# Altium schematic symbol library STM32F4&F7.SchLib: 6 symbols
Pins are listed as number, name and electrical type; pins without a type are passive.

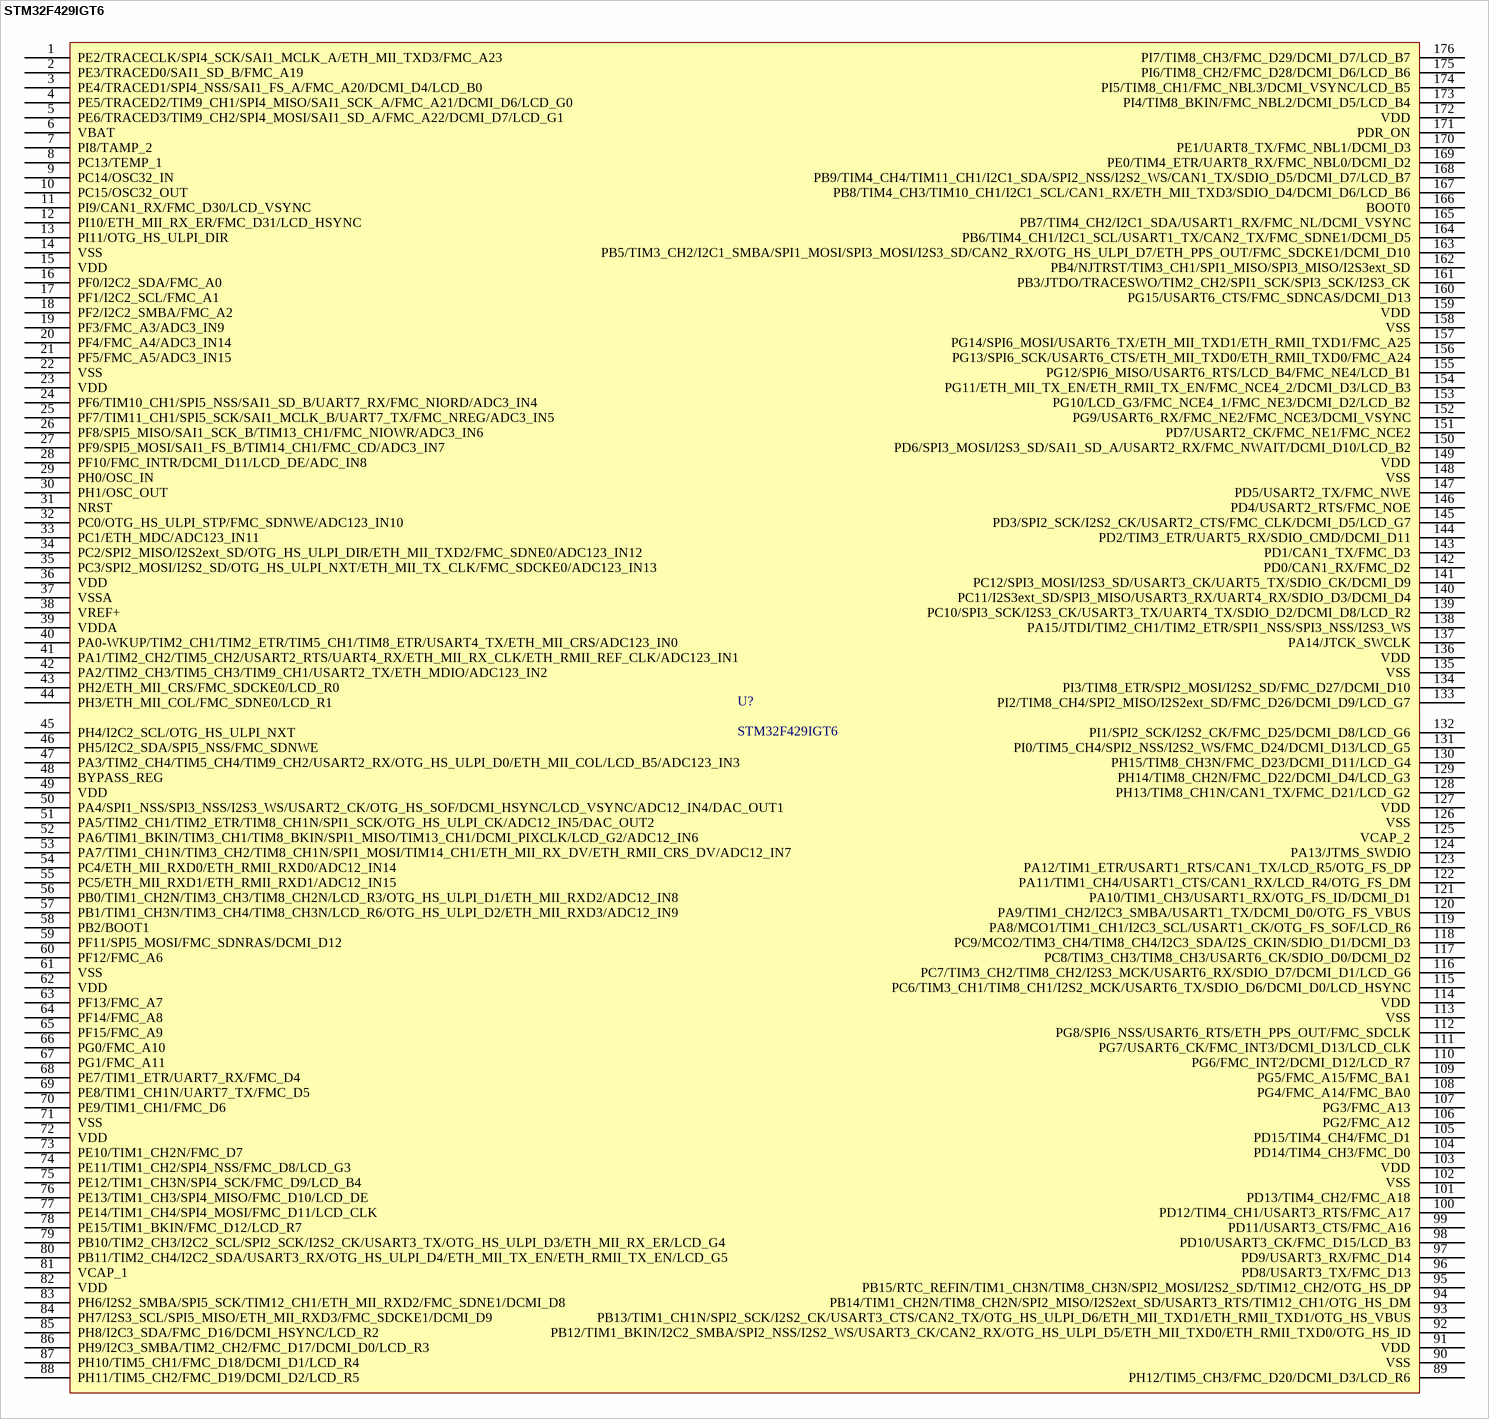
[diagram p0: symbol STM32F429IGT6]

## STM32F429IGT6
designator U?
LQFP-176
pins: 1 PE2/TRACECLK/SPI4_SCK/SAI1_MCLK_A/ETH_MII_TXD3/FMC_A23, 2 PE3/TRACED0/SAI1_SD_B/FMC_A19, 3 PE4/TRACED1/SPI4_NSS/SAI1_FS_A/FMC_A20/DCMI_D4/LCD_B0, 4 PE5/TRACED2/TIM9_CH1/SPI4_MISO/SAI1_SCK_A/FMC_A21/DCMI_D6/LCD_G0, 5 PE6/TRACED3/TIM9_CH2/SPI4_MOSI/SAI1_SD_A/FMC_A22/DCMI_D7/LCD_G1, 6 VBAT, 7 PI8/TAMP_2, 8 PC13/TEMP_1, 9 PC14/OSC32_IN, 10 PC15/OSC32_OUT, 11 PI9/CAN1_RX/FMC_D30/LCD_VSYNC, 12 PI10/ETH_MII_RX_ER/FMC_D31/LCD_HSYNC, 13 PI11/OTG_HS_ULPI_DIR, 14 VSS, 15 VDD, 16 PF0/I2C2_SDA/FMC_A0, 17 PF1/I2C2_SCL/FMC_A1, 18 PF2/I2C2_SMBA/FMC_A2, 19 PF3/FMC_A3/ADC3_IN9, 20 PF4/FMC_A4/ADC3_IN14, 21 PF5/FMC_A5/ADC3_IN15, 22 VSS, 23 VDD, 24 PF6/TIM10_CH1/SPI5_NSS/SAI1_SD_B/UART7_RX/FMC_NIORD/ADC3_IN4, 25 PF7/TIM11_CH1/SPI5_SCK/SAI1_MCLK_B/UART7_TX/FMC_NREG/ADC3_IN5, 26 PF8/SPI5_MISO/SAI1_SCK_B/TIM13_CH1/FMC_NIOWR/ADC3_IN6, 27 PF9/SPI5_MOSI/SAI1_FS_B/TIM14_CH1/FMC_CD/ADC3_IN7, 28 PF10/FMC_INTR/DCMI_D11/LCD_DE/ADC_IN8, 29 PH0/OSC_IN, 30 PH1/OSC_OUT, 31 NRST, 32 PC0/OTG_HS_ULPI_STP/FMC_SDNWE/ADC123_IN10, 33 PC1/ETH_MDC/ADC123_IN11, 34 PC2/SPI2_MISO/I2S2ext_SD/OTG_HS_ULPI_DIR/ETH_MII_TXD2/FMC_SDNE0/ADC123_IN12, 35 PC3/SPI2_MOSI/I2S2_SD/OTG_HS_ULPI_NXT/ETH_MII_TX_CLK/FMC_SDCKE0/ADC123_IN13, 36 VDD, 37 VSSA, 38 VREF+, 39 VDDA, 40 PA0-WKUP/TIM2_CH1/TIM2_ETR/TIM5_CH1/TIM8_ETR/USART4_TX/ETH_MII_CRS/ADC123_IN0, 41 PA1/TIM2_CH2/TIM5_CH2/USART2_RTS/UART4_RX/ETH_MII_RX_CLK/ETH_RMII_REF_CLK/ADC123_IN1, 42 PA2/TIM2_CH3/TIM5_CH3/TIM9_CH1/USART2_TX/ETH_MDIO/ADC123_IN2, 43 PH2/ETH_MII_CRS/FMC_SDCKE0/LCD_R0, 44 PH3/ETH_MII_COL/FMC_SDNE0/LCD_R1, 45 PH4/I2C2_SCL/OTG_HS_ULPI_NXT, 46 PH5/I2C2_SDA/SPI5_NSS/FMC_SDNWE, 47 PA3/TIM2_CH4/TIM5_CH4/TIM9_CH2/USART2_RX/OTG_HS_ULPI_D0/ETH_MII_COL/LCD_B5/ADC123_IN3, 48 BYPASS_REG, 49 VDD, 50 PA4/SPI1_NSS/SPI3_NSS/I2S3_WS/USART2_CK/OTG_HS_SOF/DCMI_HSYNC/LCD_VSYNC/ADC12_IN4/DAC_OUT1, 51 PA5/TIM2_CH1/TIM2_ETR/TIM8_CH1N/SPI1_SCK/OTG_HS_ULPI_CK/ADC12_IN5/DAC_OUT2, 52 PA6/TIM1_BKIN/TIM3_CH1/TIM8_BKIN/SPI1_MISO/TIM13_CH1/DCMI_PIXCLK/LCD_G2/ADC12_IN6, 53 PA7/TIM1_CH1N/TIM3_CH2/TIM8_CH1N/SPI1_MOSI/TIM14_CH1/ETH_MII_RX_DV/ETH_RMII_CRS_DV/ADC12_IN7, 54 PC4/ETH_MII_RXD0/ETH_RMII_RXD0/ADC12_IN14, 55 PC5/ETH_MII_RXD1/ETH_RMII_RXD1/ADC12_IN15, 56 PB0/TIM1_CH2N/TIM3_CH3/TIM8_CH2N/LCD_R3/OTG_HS_ULPI_D1/ETH_MII_RXD2/ADC12_IN8, 57 PB1/TIM1_CH3N/TIM3_CH4/TIM8_CH3N/LCD_R6/OTG_HS_ULPI_D2/ETH_MII_RXD3/ADC12_IN9, 58 PB2/BOOT1, 59 PF11/SPI5_MOSI/FMC_SDNRAS/DCMI_D12, 60 PF12/FMC_A6, 61 VSS, 62 VDD, 63 PF13/FMC_A7, 64 PF14/FMC_A8, 65 PF15/FMC_A9, 66 PG0/FMC_A10, 67 PG1/FMC_A11, 68 PE7/TIM1_ETR/UART7_RX/FMC_D4, 69 PE8/TIM1_CH1N/UART7_TX/FMC_D5, 70 PE9/TIM1_CH1/FMC_D6, 71 VSS, 72 VDD, 73 PE10/TIM1_CH2N/FMC_D7, 74 PE11/TIM1_CH2/SPI4_NSS/FMC_D8/LCD_G3, 75 PE12/TIM1_CH3N/SPI4_SCK/FMC_D9/LCD_B4, 76 PE13/TIM1_CH3/SPI4_MISO/FMC_D10/LCD_DE, 77 PE14/TIM1_CH4/SPI4_MOSI/FMC_D11/LCD_CLK, 78 PE15/TIM1_BKIN/FMC_D12/LCD_R7, 79 PB10/TIM2_CH3/I2C2_SCL/SPI2_SCK/I2S2_CK/USART3_TX/OTG_HS_ULPI_D3/ETH_MII_RX_ER/LCD_G4, 80 PB11/TIM2_CH4/I2C2_SDA/USART3_RX/OTG_HS_ULPI_D4/ETH_MII_TX_EN/ETH_RMII_TX_EN/LCD_G5, 81 VCAP_1, 82 VDD, 83 PH6/I2S2_SMBA/SPI5_SCK/TIM12_CH1/ETH_MII_RXD2/FMC_SDNE1/DCMI_D8, 84 PH7/I2S3_SCL/SPI5_MISO/ETH_MII_RXD3/FMC_SDCKE1/DCMI_D9, 85 PH8/I2C3_SDA/FMC_D16/DCMI_HSYNC/LCD_R2, 86 PH9/I2C3_SMBA/TIM2_CH2/FMC_D17/DCMI_D0/LCD_R3, 87 PH10/TIM5_CH1/FMC_D18/DCMI_D1/LCD_R4, 88 PH11/TIM5_CH2/FMC_D19/DCMI_D2/LCD_R5, 89 PH12/TIM5_CH3/FMC_D20/DCMI_D3/LCD_R6, 90 VSS, 91 VDD, 92 PB12/TIM1_BKIN/I2C2_SMBA/SPI2_NSS/I2S2_WS/USART3_CK/CAN2_RX/OTG_HS_ULPI_D5/ETH_MII_TXD0/ETH_RMII_TXD0/OTG_HS_ID, 93 PB13/TIM1_CH1N/SPI2_SCK/I2S2_CK/USART3_CTS/CAN2_TX/OTG_HS_ULPI_D6/ETH_MII_TXD1/ETH_RMII_TXD1/OTG_HS_VBUS, 94 PB14/TIM1_CH2N/TIM8_CH2N/SPI2_MISO/I2S2ext_SD/USART3_RTS/TIM12_CH1/OTG_HS_DM, 95 PB15/RTC_REFIN/TIM1_CH3N/TIM8_CH3N/SPI2_MOSI/I2S2_SD/TIM12_CH2/OTG_HS_DP, 96 PD8/USART3_TX/FMC_D13, 97 PD9/USART3_RX/FMC_D14, 98 PD10/USART3_CK/FMC_D15/LCD_B3, 99 PD11/USART3_CTS/FMC_A16, 100 PD12/TIM4_CH1/USART3_RTS/FMC_A17, 101 PD13/TIM4_CH2/FMC_A18, 102 VSS, 103 VDD, 104 PD14/TIM4_CH3/FMC_D0, 105 PD15/TIM4_CH4/FMC_D1, 106 PG2/FMC_A12, 107 PG3/FMC_A13, 108 PG4/FMC_A14/FMC_BA0, 109 PG5/FMC_A15/FMC_BA1, 110 PG6/FMC_INT2/DCMI_D12/LCD_R7, 111 PG7/USART6_CK/FMC_INT3/DCMI_D13/LCD_CLK, 112 PG8/SPI6_NSS/USART6_RTS/ETH_PPS_OUT/FMC_SDCLK, 113 VSS, 114 VDD, 115 PC6/TIM3_CH1/TIM8_CH1/I2S2_MCK/USART6_TX/SDIO_D6/DCMI_D0/LCD_HSYNC, 116 PC7/TIM3_CH2/TIM8_CH2/I2S3_MCK/USART6_RX/SDIO_D7/DCMI_D1/LCD_G6, 117 PC8/TIM3_CH3/TIM8_CH3/USART6_CK/SDIO_D0/DCMI_D2, 118 PC9/MCO2/TIM3_CH4/TIM8_CH4/I2C3_SDA/I2S_CKIN/SDIO_D1/DCMI_D3, 119 PA8/MCO1/TIM1_CH1/I2C3_SCL/USART1_CK/OTG_FS_SOF/LCD_R6, 120 PA9/TIM1_CH2/I2C3_SMBA/USART1_TX/DCMI_D0/OTG_FS_VBUS, 121 PA10/TIM1_CH3/USART1_RX/OTG_FS_ID/DCMI_D1, 122 PA11/TIM1_CH4/USART1_CTS/CAN1_RX/LCD_R4/OTG_FS_DM, 123 PA12/TIM1_ETR/USART1_RTS/CAN1_TX/LCD_R5/OTG_FS_DP, 124 PA13/JTMS_SWDIO, 125 VCAP_2, 126 VSS, 127 VDD, 128 PH13/TIM8_CH1N/CAN1_TX/FMC_D21/LCD_G2, 129 PH14/TIM8_CH2N/FMC_D22/DCMI_D4/LCD_G3, 130 PH15/TIM8_CH3N/FMC_D23/DCMI_D11/LCD_G4, 131 PI0/TIM5_CH4/SPI2_NSS/I2S2_WS/FMC_D24/DCMI_D13/LCD_G5, 132 PI1/SPI2_SCK/I2S2_CK/FMC_D25/DCMI_D8/LCD_G6, 133 PI2/TIM8_CH4/SPI2_MISO/I2S2ext_SD/FMC_D26/DCMI_D9/LCD_G7, 134 PI3/TIM8_ETR/SPI2_MOSI/I2S2_SD/FMC_D27/DCMI_D10, 135 VSS, 136 VDD, 137 PA14/JTCK_SWCLK, 138 PA15/JTDI/TIM2_CH1/TIM2_ETR/SPI1_NSS/SPI3_NSS/I2S3_WS, 139 PC10/SPI3_SCK/I2S3_CK/USART3_TX/UART4_TX/SDIO_D2/DCMI_D8/LCD_R2, 140 PC11/I2S3ext_SD/SPI3_MISO/USART3_RX/UART4_RX/SDIO_D3/DCMI_D4, 141 PC12/SPI3_MOSI/I2S3_SD/USART3_CK/UART5_TX/SDIO_CK/DCMI_D9, 142 PD0/CAN1_RX/FMC_D2, 143 PD1/CAN1_TX/FMC_D3, 144 PD2/TIM3_ETR/UART5_RX/SDIO_CMD/DCMI_D11, 145 PD3/SPI2_SCK/I2S2_CK/USART2_CTS/FMC_CLK/DCMI_D5/LCD_G7, 146 PD4/USART2_RTS/FMC_NOE, 147 PD5/USART2_TX/FMC_NWE, 148 VSS, 149 VDD, 150 PD6/SPI3_MOSI/I2S3_SD/SAI1_SD_A/USART2_RX/FMC_NWAIT/DCMI_D10/LCD_B2, 151 PD7/USART2_CK/FMC_NE1/FMC_NCE2, 152 PG9/USART6_RX/FMC_NE2/FMC_NCE3/DCMI_VSYNC, 153 PG10/LCD_G3/FMC_NCE4_1/FMC_NE3/DCMI_D2/LCD_B2, 154 PG11/ETH_MII_TX_EN/ETH_RMII_TX_EN/FMC_NCE4_2/DCMI_D3/LCD_B3, 155 PG12/SPI6_MISO/USART6_RTS/LCD_B4/FMC_NE4/LCD_B1, 156 PG13/SPI6_SCK/USART6_CTS/ETH_MII_TXD0/ETH_RMII_TXD0/FMC_A24, 157 PG14/SPI6_MOSI/USART6_TX/ETH_MII_TXD1/ETH_RMII_TXD1/FMC_A25, 158 VSS, 159 VDD, 160 PG15/USART6_CTS/FMC_SDNCAS/DCMI_D13, 161 PB3/JTDO/TRACESWO/TIM2_CH2/SPI1_SCK/SPI3_SCK/I2S3_CK, 162 PB4/NJTRST/TIM3_CH1/SPI1_MISO/SPI3_MISO/I2S3ext_SD, 163 PB5/TIM3_CH2/I2C1_SMBA/SPI1_MOSI/SPI3_MOSI/I2S3_SD/CAN2_RX/OTG_HS_ULPI_D7/ETH_PPS_OUT/FMC_SDCKE1/DCMI_D10, 164 PB6/TIM4_CH1/I2C1_SCL/USART1_TX/CAN2_TX/FMC_SDNE1/DCMI_D5, 165 PB7/TIM4_CH2/I2C1_SDA/USART1_RX/FMC_NL/DCMI_VSYNC, 166 BOOT0, 167 PB8/TIM4_CH3/TIM10_CH1/I2C1_SCL/CAN1_RX/ETH_MII_TXD3/SDIO_D4/DCMI_D6/LCD_B6, 168 PB9/TIM4_CH4/TIM11_CH1/I2C1_SDA/SPI2_NSS/I2S2_WS/CAN1_TX/SDIO_D5/DCMI_D7/LCD_B7, 169 PE0/TIM4_ETR/UART8_RX/FMC_NBL0/DCMI_D2, 170 PE1/UART8_TX/FMC_NBL1/DCMI_D3, 171 PDR_ON, 172 VDD, 173 PI4/TIM8_BKIN/FMC_NBL2/DCMI_D5/LCD_B4, 174 PI5/TIM8_CH1/FMC_NBL3/DCMI_VSYNC/LCD_B5, 175 PI6/TIM8_CH2/FMC_D28/DCMI_D6/LCD_B6, 176 PI7/TIM8_CH3/FMC_D29/DCMI_D7/LCD_B7

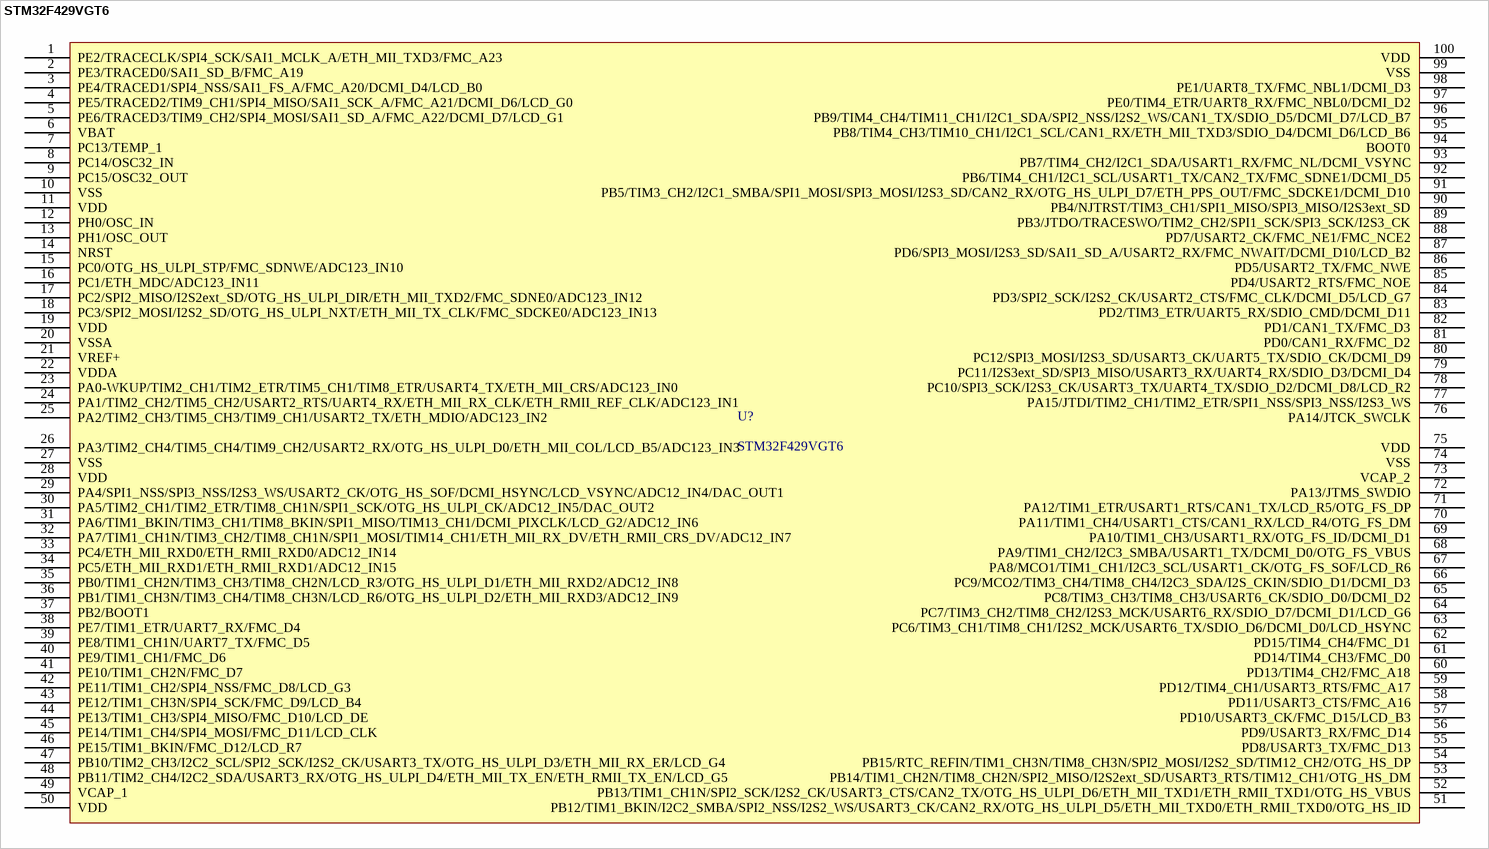
[diagram p1: symbol STM32F429VGT6]

## STM32F429VGT6
designator U?
LQFP-100
pins: 1 PE2/TRACECLK/SPI4_SCK/SAI1_MCLK_A/ETH_MII_TXD3/FMC_A23, 2 PE3/TRACED0/SAI1_SD_B/FMC_A19, 3 PE4/TRACED1/SPI4_NSS/SAI1_FS_A/FMC_A20/DCMI_D4/LCD_B0, 4 PE5/TRACED2/TIM9_CH1/SPI4_MISO/SAI1_SCK_A/FMC_A21/DCMI_D6/LCD_G0, 5 PE6/TRACED3/TIM9_CH2/SPI4_MOSI/SAI1_SD_A/FMC_A22/DCMI_D7/LCD_G1, 6 VBAT, 7 PC13/TEMP_1, 8 PC14/OSC32_IN, 9 PC15/OSC32_OUT, 10 VSS, 11 VDD, 12 PH0/OSC_IN, 13 PH1/OSC_OUT, 14 NRST, 15 PC0/OTG_HS_ULPI_STP/FMC_SDNWE/ADC123_IN10, 16 PC1/ETH_MDC/ADC123_IN11, 17 PC2/SPI2_MISO/I2S2ext_SD/OTG_HS_ULPI_DIR/ETH_MII_TXD2/FMC_SDNE0/ADC123_IN12, 18 PC3/SPI2_MOSI/I2S2_SD/OTG_HS_ULPI_NXT/ETH_MII_TX_CLK/FMC_SDCKE0/ADC123_IN13, 19 VDD, 20 VSSA, 21 VREF+, 22 VDDA, 23 PA0-WKUP/TIM2_CH1/TIM2_ETR/TIM5_CH1/TIM8_ETR/USART4_TX/ETH_MII_CRS/ADC123_IN0, 24 PA1/TIM2_CH2/TIM5_CH2/USART2_RTS/UART4_RX/ETH_MII_RX_CLK/ETH_RMII_REF_CLK/ADC123_IN1, 25 PA2/TIM2_CH3/TIM5_CH3/TIM9_CH1/USART2_TX/ETH_MDIO/ADC123_IN2, 26 PA3/TIM2_CH4/TIM5_CH4/TIM9_CH2/USART2_RX/OTG_HS_ULPI_D0/ETH_MII_COL/LCD_B5/ADC123_IN3, 27 VSS, 28 VDD, 29 PA4/SPI1_NSS/SPI3_NSS/I2S3_WS/USART2_CK/OTG_HS_SOF/DCMI_HSYNC/LCD_VSYNC/ADC12_IN4/DAC_OUT1, 30 PA5/TIM2_CH1/TIM2_ETR/TIM8_CH1N/SPI1_SCK/OTG_HS_ULPI_CK/ADC12_IN5/DAC_OUT2, 31 PA6/TIM1_BKIN/TIM3_CH1/TIM8_BKIN/SPI1_MISO/TIM13_CH1/DCMI_PIXCLK/LCD_G2/ADC12_IN6, 32 PA7/TIM1_CH1N/TIM3_CH2/TIM8_CH1N/SPI1_MOSI/TIM14_CH1/ETH_MII_RX_DV/ETH_RMII_CRS_DV/ADC12_IN7, 33 PC4/ETH_MII_RXD0/ETH_RMII_RXD0/ADC12_IN14, 34 PC5/ETH_MII_RXD1/ETH_RMII_RXD1/ADC12_IN15, 35 PB0/TIM1_CH2N/TIM3_CH3/TIM8_CH2N/LCD_R3/OTG_HS_ULPI_D1/ETH_MII_RXD2/ADC12_IN8, 36 PB1/TIM1_CH3N/TIM3_CH4/TIM8_CH3N/LCD_R6/OTG_HS_ULPI_D2/ETH_MII_RXD3/ADC12_IN9, 37 PB2/BOOT1, 38 PE7/TIM1_ETR/UART7_RX/FMC_D4, 39 PE8/TIM1_CH1N/UART7_TX/FMC_D5, 40 PE9/TIM1_CH1/FMC_D6, 41 PE10/TIM1_CH2N/FMC_D7, 42 PE11/TIM1_CH2/SPI4_NSS/FMC_D8/LCD_G3, 43 PE12/TIM1_CH3N/SPI4_SCK/FMC_D9/LCD_B4, 44 PE13/TIM1_CH3/SPI4_MISO/FMC_D10/LCD_DE, 45 PE14/TIM1_CH4/SPI4_MOSI/FMC_D11/LCD_CLK, 46 PE15/TIM1_BKIN/FMC_D12/LCD_R7, 47 PB10/TIM2_CH3/I2C2_SCL/SPI2_SCK/I2S2_CK/USART3_TX/OTG_HS_ULPI_D3/ETH_MII_RX_ER/LCD_G4, 48 PB11/TIM2_CH4/I2C2_SDA/USART3_RX/OTG_HS_ULPI_D4/ETH_MII_TX_EN/ETH_RMII_TX_EN/LCD_G5, 49 VCAP_1, 50 VDD, 51 PB12/TIM1_BKIN/I2C2_SMBA/SPI2_NSS/I2S2_WS/USART3_CK/CAN2_RX/OTG_HS_ULPI_D5/ETH_MII_TXD0/ETH_RMII_TXD0/OTG_HS_ID, 52 PB13/TIM1_CH1N/SPI2_SCK/I2S2_CK/USART3_CTS/CAN2_TX/OTG_HS_ULPI_D6/ETH_MII_TXD1/ETH_RMII_TXD1/OTG_HS_VBUS, 53 PB14/TIM1_CH2N/TIM8_CH2N/SPI2_MISO/I2S2ext_SD/USART3_RTS/TIM12_CH1/OTG_HS_DM, 54 PB15/RTC_REFIN/TIM1_CH3N/TIM8_CH3N/SPI2_MOSI/I2S2_SD/TIM12_CH2/OTG_HS_DP, 55 PD8/USART3_TX/FMC_D13, 56 PD9/USART3_RX/FMC_D14, 57 PD10/USART3_CK/FMC_D15/LCD_B3, 58 PD11/USART3_CTS/FMC_A16, 59 PD12/TIM4_CH1/USART3_RTS/FMC_A17, 60 PD13/TIM4_CH2/FMC_A18, 61 PD14/TIM4_CH3/FMC_D0, 62 PD15/TIM4_CH4/FMC_D1, 63 PC6/TIM3_CH1/TIM8_CH1/I2S2_MCK/USART6_TX/SDIO_D6/DCMI_D0/LCD_HSYNC, 64 PC7/TIM3_CH2/TIM8_CH2/I2S3_MCK/USART6_RX/SDIO_D7/DCMI_D1/LCD_G6, 65 PC8/TIM3_CH3/TIM8_CH3/USART6_CK/SDIO_D0/DCMI_D2, 66 PC9/MCO2/TIM3_CH4/TIM8_CH4/I2C3_SDA/I2S_CKIN/SDIO_D1/DCMI_D3, 67 PA8/MCO1/TIM1_CH1/I2C3_SCL/USART1_CK/OTG_FS_SOF/LCD_R6, 68 PA9/TIM1_CH2/I2C3_SMBA/USART1_TX/DCMI_D0/OTG_FS_VBUS, 69 PA10/TIM1_CH3/USART1_RX/OTG_FS_ID/DCMI_D1, 70 PA11/TIM1_CH4/USART1_CTS/CAN1_RX/LCD_R4/OTG_FS_DM, 71 PA12/TIM1_ETR/USART1_RTS/CAN1_TX/LCD_R5/OTG_FS_DP, 72 PA13/JTMS_SWDIO, 73 VCAP_2, 74 VSS, 75 VDD, 76 PA14/JTCK_SWCLK, 77 PA15/JTDI/TIM2_CH1/TIM2_ETR/SPI1_NSS/SPI3_NSS/I2S3_WS, 78 PC10/SPI3_SCK/I2S3_CK/USART3_TX/UART4_TX/SDIO_D2/DCMI_D8/LCD_R2, 79 PC11/I2S3ext_SD/SPI3_MISO/USART3_RX/UART4_RX/SDIO_D3/DCMI_D4, 80 PC12/SPI3_MOSI/I2S3_SD/USART3_CK/UART5_TX/SDIO_CK/DCMI_D9, 81 PD0/CAN1_RX/FMC_D2, 82 PD1/CAN1_TX/FMC_D3, 83 PD2/TIM3_ETR/UART5_RX/SDIO_CMD/DCMI_D11, 84 PD3/SPI2_SCK/I2S2_CK/USART2_CTS/FMC_CLK/DCMI_D5/LCD_G7, 85 PD4/USART2_RTS/FMC_NOE, 86 PD5/USART2_TX/FMC_NWE, 87 PD6/SPI3_MOSI/I2S3_SD/SAI1_SD_A/USART2_RX/FMC_NWAIT/DCMI_D10/LCD_B2, 88 PD7/USART2_CK/FMC_NE1/FMC_NCE2, 89 PB3/JTDO/TRACESWO/TIM2_CH2/SPI1_SCK/SPI3_SCK/I2S3_CK, 90 PB4/NJTRST/TIM3_CH1/SPI1_MISO/SPI3_MISO/I2S3ext_SD, 91 PB5/TIM3_CH2/I2C1_SMBA/SPI1_MOSI/SPI3_MOSI/I2S3_SD/CAN2_RX/OTG_HS_ULPI_D7/ETH_PPS_OUT/FMC_SDCKE1/DCMI_D10, 92 PB6/TIM4_CH1/I2C1_SCL/USART1_TX/CAN2_TX/FMC_SDNE1/DCMI_D5, 93 PB7/TIM4_CH2/I2C1_SDA/USART1_RX/FMC_NL/DCMI_VSYNC, 94 BOOT0, 95 PB8/TIM4_CH3/TIM10_CH1/I2C1_SCL/CAN1_RX/ETH_MII_TXD3/SDIO_D4/DCMI_D6/LCD_B6, 96 PB9/TIM4_CH4/TIM11_CH1/I2C1_SDA/SPI2_NSS/I2S2_WS/CAN1_TX/SDIO_D5/DCMI_D7/LCD_B7, 97 PE0/TIM4_ETR/UART8_RX/FMC_NBL0/DCMI_D2, 98 PE1/UART8_TX/FMC_NBL1/DCMI_D3, 99 VSS, 100 VDD

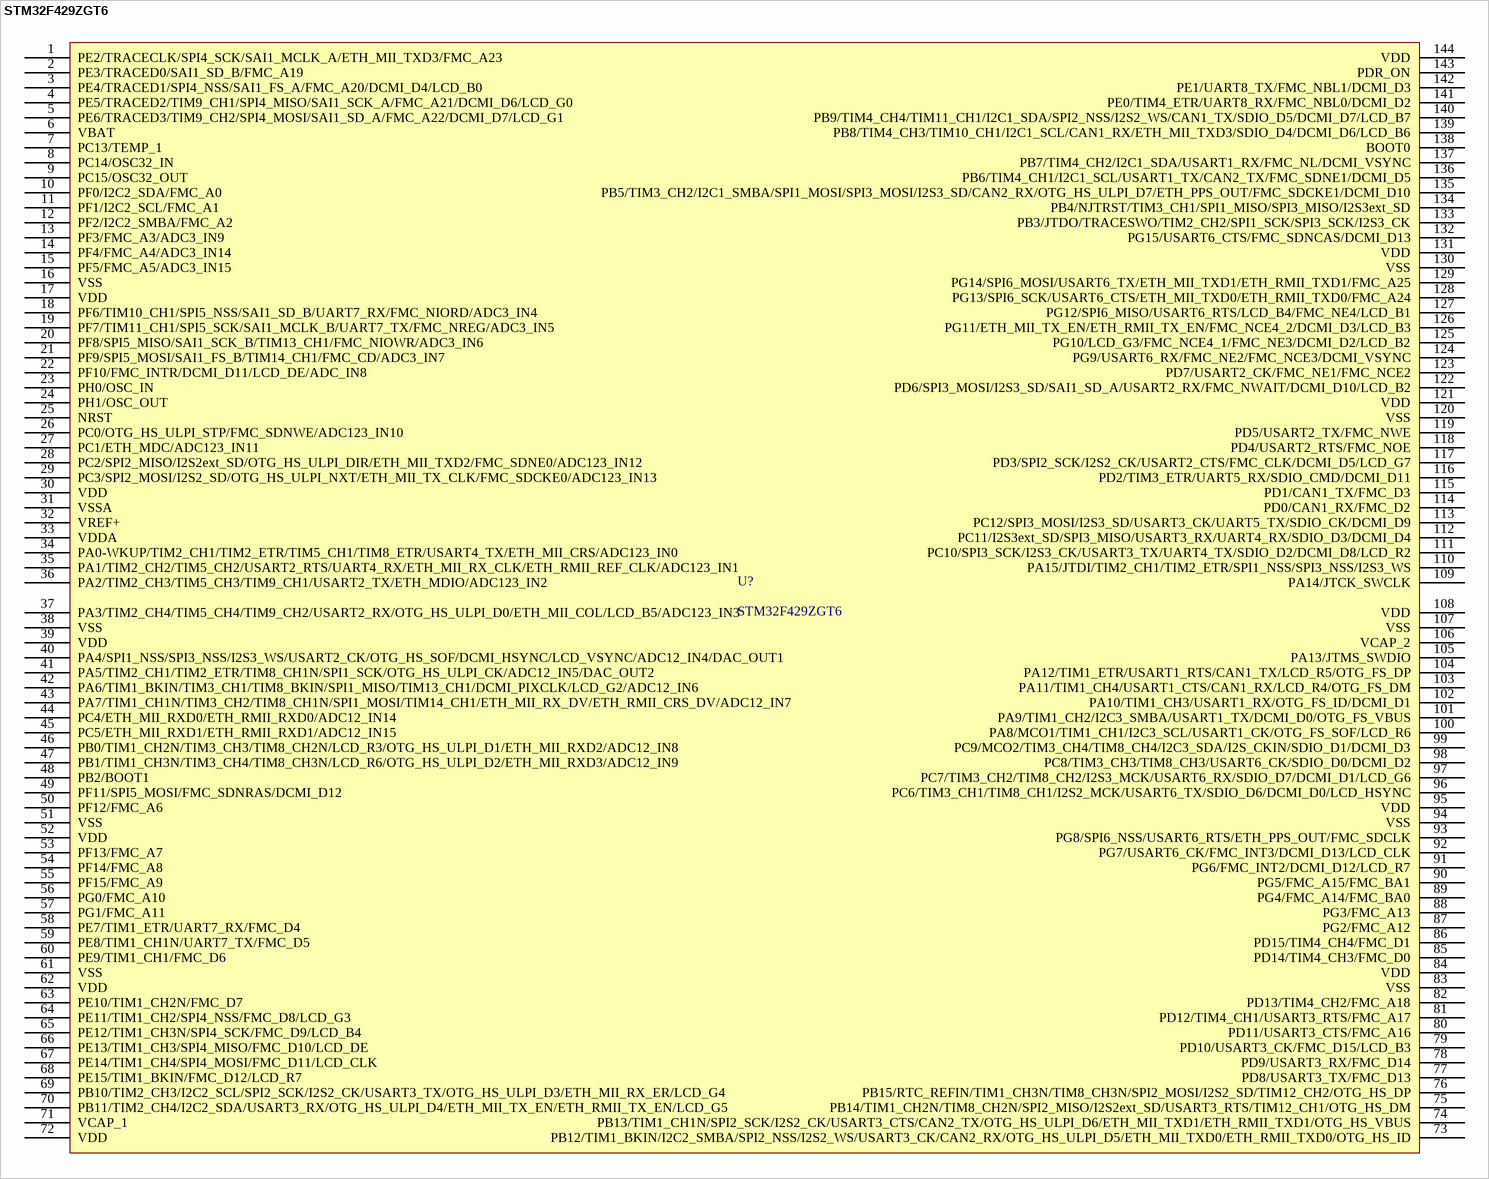
[diagram p2: symbol STM32F429ZGT6]

## STM32F429ZGT6
designator U?
LQFP-144
pins: 1 PE2/TRACECLK/SPI4_SCK/SAI1_MCLK_A/ETH_MII_TXD3/FMC_A23, 2 PE3/TRACED0/SAI1_SD_B/FMC_A19, 3 PE4/TRACED1/SPI4_NSS/SAI1_FS_A/FMC_A20/DCMI_D4/LCD_B0, 4 PE5/TRACED2/TIM9_CH1/SPI4_MISO/SAI1_SCK_A/FMC_A21/DCMI_D6/LCD_G0, 5 PE6/TRACED3/TIM9_CH2/SPI4_MOSI/SAI1_SD_A/FMC_A22/DCMI_D7/LCD_G1, 6 VBAT, 7 PC13/TEMP_1, 8 PC14/OSC32_IN, 9 PC15/OSC32_OUT, 10 PF0/I2C2_SDA/FMC_A0, 11 PF1/I2C2_SCL/FMC_A1, 12 PF2/I2C2_SMBA/FMC_A2, 13 PF3/FMC_A3/ADC3_IN9, 14 PF4/FMC_A4/ADC3_IN14, 15 PF5/FMC_A5/ADC3_IN15, 16 VSS, 17 VDD, 18 PF6/TIM10_CH1/SPI5_NSS/SAI1_SD_B/UART7_RX/FMC_NIORD/ADC3_IN4, 19 PF7/TIM11_CH1/SPI5_SCK/SAI1_MCLK_B/UART7_TX/FMC_NREG/ADC3_IN5, 20 PF8/SPI5_MISO/SAI1_SCK_B/TIM13_CH1/FMC_NIOWR/ADC3_IN6, 21 PF9/SPI5_MOSI/SAI1_FS_B/TIM14_CH1/FMC_CD/ADC3_IN7, 22 PF10/FMC_INTR/DCMI_D11/LCD_DE/ADC_IN8, 23 PH0/OSC_IN, 24 PH1/OSC_OUT, 25 NRST, 26 PC0/OTG_HS_ULPI_STP/FMC_SDNWE/ADC123_IN10, 27 PC1/ETH_MDC/ADC123_IN11, 28 PC2/SPI2_MISO/I2S2ext_SD/OTG_HS_ULPI_DIR/ETH_MII_TXD2/FMC_SDNE0/ADC123_IN12, 29 PC3/SPI2_MOSI/I2S2_SD/OTG_HS_ULPI_NXT/ETH_MII_TX_CLK/FMC_SDCKE0/ADC123_IN13, 30 VDD, 31 VSSA, 32 VREF+, 33 VDDA, 34 PA0-WKUP/TIM2_CH1/TIM2_ETR/TIM5_CH1/TIM8_ETR/USART4_TX/ETH_MII_CRS/ADC123_IN0, 35 PA1/TIM2_CH2/TIM5_CH2/USART2_RTS/UART4_RX/ETH_MII_RX_CLK/ETH_RMII_REF_CLK/ADC123_IN1, 36 PA2/TIM2_CH3/TIM5_CH3/TIM9_CH1/USART2_TX/ETH_MDIO/ADC123_IN2, 37 PA3/TIM2_CH4/TIM5_CH4/TIM9_CH2/USART2_RX/OTG_HS_ULPI_D0/ETH_MII_COL/LCD_B5/ADC123_IN3, 38 VSS, 39 VDD, 40 PA4/SPI1_NSS/SPI3_NSS/I2S3_WS/USART2_CK/OTG_HS_SOF/DCMI_HSYNC/LCD_VSYNC/ADC12_IN4/DAC_OUT1, 41 PA5/TIM2_CH1/TIM2_ETR/TIM8_CH1N/SPI1_SCK/OTG_HS_ULPI_CK/ADC12_IN5/DAC_OUT2, 42 PA6/TIM1_BKIN/TIM3_CH1/TIM8_BKIN/SPI1_MISO/TIM13_CH1/DCMI_PIXCLK/LCD_G2/ADC12_IN6, 43 PA7/TIM1_CH1N/TIM3_CH2/TIM8_CH1N/SPI1_MOSI/TIM14_CH1/ETH_MII_RX_DV/ETH_RMII_CRS_DV/ADC12_IN7, 44 PC4/ETH_MII_RXD0/ETH_RMII_RXD0/ADC12_IN14, 45 PC5/ETH_MII_RXD1/ETH_RMII_RXD1/ADC12_IN15, 46 PB0/TIM1_CH2N/TIM3_CH3/TIM8_CH2N/LCD_R3/OTG_HS_ULPI_D1/ETH_MII_RXD2/ADC12_IN8, 47 PB1/TIM1_CH3N/TIM3_CH4/TIM8_CH3N/LCD_R6/OTG_HS_ULPI_D2/ETH_MII_RXD3/ADC12_IN9, 48 PB2/BOOT1, 49 PF11/SPI5_MOSI/FMC_SDNRAS/DCMI_D12, 50 PF12/FMC_A6, 51 VSS, 52 VDD, 53 PF13/FMC_A7, 54 PF14/FMC_A8, 55 PF15/FMC_A9, 56 PG0/FMC_A10, 57 PG1/FMC_A11, 58 PE7/TIM1_ETR/UART7_RX/FMC_D4, 59 PE8/TIM1_CH1N/UART7_TX/FMC_D5, 60 PE9/TIM1_CH1/FMC_D6, 61 VSS, 62 VDD, 63 PE10/TIM1_CH2N/FMC_D7, 64 PE11/TIM1_CH2/SPI4_NSS/FMC_D8/LCD_G3, 65 PE12/TIM1_CH3N/SPI4_SCK/FMC_D9/LCD_B4, 66 PE13/TIM1_CH3/SPI4_MISO/FMC_D10/LCD_DE, 67 PE14/TIM1_CH4/SPI4_MOSI/FMC_D11/LCD_CLK, 68 PE15/TIM1_BKIN/FMC_D12/LCD_R7, 69 PB10/TIM2_CH3/I2C2_SCL/SPI2_SCK/I2S2_CK/USART3_TX/OTG_HS_ULPI_D3/ETH_MII_RX_ER/LCD_G4, 70 PB11/TIM2_CH4/I2C2_SDA/USART3_RX/OTG_HS_ULPI_D4/ETH_MII_TX_EN/ETH_RMII_TX_EN/LCD_G5, 71 VCAP_1, 72 VDD, 73 PB12/TIM1_BKIN/I2C2_SMBA/SPI2_NSS/I2S2_WS/USART3_CK/CAN2_RX/OTG_HS_ULPI_D5/ETH_MII_TXD0/ETH_RMII_TXD0/OTG_HS_ID, 74 PB13/TIM1_CH1N/SPI2_SCK/I2S2_CK/USART3_CTS/CAN2_TX/OTG_HS_ULPI_D6/ETH_MII_TXD1/ETH_RMII_TXD1/OTG_HS_VBUS, 75 PB14/TIM1_CH2N/TIM8_CH2N/SPI2_MISO/I2S2ext_SD/USART3_RTS/TIM12_CH1/OTG_HS_DM, 76 PB15/RTC_REFIN/TIM1_CH3N/TIM8_CH3N/SPI2_MOSI/I2S2_SD/TIM12_CH2/OTG_HS_DP, 77 PD8/USART3_TX/FMC_D13, 78 PD9/USART3_RX/FMC_D14, 79 PD10/USART3_CK/FMC_D15/LCD_B3, 80 PD11/USART3_CTS/FMC_A16, 81 PD12/TIM4_CH1/USART3_RTS/FMC_A17, 82 PD13/TIM4_CH2/FMC_A18, 83 VSS, 84 VDD, 85 PD14/TIM4_CH3/FMC_D0, 86 PD15/TIM4_CH4/FMC_D1, 87 PG2/FMC_A12, 88 PG3/FMC_A13, 89 PG4/FMC_A14/FMC_BA0, 90 PG5/FMC_A15/FMC_BA1, 91 PG6/FMC_INT2/DCMI_D12/LCD_R7, 92 PG7/USART6_CK/FMC_INT3/DCMI_D13/LCD_CLK, 93 PG8/SPI6_NSS/USART6_RTS/ETH_PPS_OUT/FMC_SDCLK, 94 VSS, 95 VDD, 96 PC6/TIM3_CH1/TIM8_CH1/I2S2_MCK/USART6_TX/SDIO_D6/DCMI_D0/LCD_HSYNC, 97 PC7/TIM3_CH2/TIM8_CH2/I2S3_MCK/USART6_RX/SDIO_D7/DCMI_D1/LCD_G6, 98 PC8/TIM3_CH3/TIM8_CH3/USART6_CK/SDIO_D0/DCMI_D2, 99 PC9/MCO2/TIM3_CH4/TIM8_CH4/I2C3_SDA/I2S_CKIN/SDIO_D1/DCMI_D3, 100 PA8/MCO1/TIM1_CH1/I2C3_SCL/USART1_CK/OTG_FS_SOF/LCD_R6, 101 PA9/TIM1_CH2/I2C3_SMBA/USART1_TX/DCMI_D0/OTG_FS_VBUS, 102 PA10/TIM1_CH3/USART1_RX/OTG_FS_ID/DCMI_D1, 103 PA11/TIM1_CH4/USART1_CTS/CAN1_RX/LCD_R4/OTG_FS_DM, 104 PA12/TIM1_ETR/USART1_RTS/CAN1_TX/LCD_R5/OTG_FS_DP, 105 PA13/JTMS_SWDIO, 106 VCAP_2, 107 VSS, 108 VDD, 109 PA14/JTCK_SWCLK, 110 PA15/JTDI/TIM2_CH1/TIM2_ETR/SPI1_NSS/SPI3_NSS/I2S3_WS, 111 PC10/SPI3_SCK/I2S3_CK/USART3_TX/UART4_TX/SDIO_D2/DCMI_D8/LCD_R2, 112 PC11/I2S3ext_SD/SPI3_MISO/USART3_RX/UART4_RX/SDIO_D3/DCMI_D4, 113 PC12/SPI3_MOSI/I2S3_SD/USART3_CK/UART5_TX/SDIO_CK/DCMI_D9, 114 PD0/CAN1_RX/FMC_D2, 115 PD1/CAN1_TX/FMC_D3, 116 PD2/TIM3_ETR/UART5_RX/SDIO_CMD/DCMI_D11, 117 PD3/SPI2_SCK/I2S2_CK/USART2_CTS/FMC_CLK/DCMI_D5/LCD_G7, 118 PD4/USART2_RTS/FMC_NOE, 119 PD5/USART2_TX/FMC_NWE, 120 VSS, 121 VDD, 122 PD6/SPI3_MOSI/I2S3_SD/SAI1_SD_A/USART2_RX/FMC_NWAIT/DCMI_D10/LCD_B2, 123 PD7/USART2_CK/FMC_NE1/FMC_NCE2, 124 PG9/USART6_RX/FMC_NE2/FMC_NCE3/DCMI_VSYNC, 125 PG10/LCD_G3/FMC_NCE4_1/FMC_NE3/DCMI_D2/LCD_B2, 126 PG11/ETH_MII_TX_EN/ETH_RMII_TX_EN/FMC_NCE4_2/DCMI_D3/LCD_B3, 127 PG12/SPI6_MISO/USART6_RTS/LCD_B4/FMC_NE4/LCD_B1, 128 PG13/SPI6_SCK/USART6_CTS/ETH_MII_TXD0/ETH_RMII_TXD0/FMC_A24, 129 PG14/SPI6_MOSI/USART6_TX/ETH_MII_TXD1/ETH_RMII_TXD1/FMC_A25, 130 VSS, 131 VDD, 132 PG15/USART6_CTS/FMC_SDNCAS/DCMI_D13, 133 PB3/JTDO/TRACESWO/TIM2_CH2/SPI1_SCK/SPI3_SCK/I2S3_CK, 134 PB4/NJTRST/TIM3_CH1/SPI1_MISO/SPI3_MISO/I2S3ext_SD, 135 PB5/TIM3_CH2/I2C1_SMBA/SPI1_MOSI/SPI3_MOSI/I2S3_SD/CAN2_RX/OTG_HS_ULPI_D7/ETH_PPS_OUT/FMC_SDCKE1/DCMI_D10, 136 PB6/TIM4_CH1/I2C1_SCL/USART1_TX/CAN2_TX/FMC_SDNE1/DCMI_D5, 137 PB7/TIM4_CH2/I2C1_SDA/USART1_RX/FMC_NL/DCMI_VSYNC, 138 BOOT0, 139 PB8/TIM4_CH3/TIM10_CH1/I2C1_SCL/CAN1_RX/ETH_MII_TXD3/SDIO_D4/DCMI_D6/LCD_B6, 140 PB9/TIM4_CH4/TIM11_CH1/I2C1_SDA/SPI2_NSS/I2S2_WS/CAN1_TX/SDIO_D5/DCMI_D7/LCD_B7, 141 PE0/TIM4_ETR/UART8_RX/FMC_NBL0/DCMI_D2, 142 PE1/UART8_TX/FMC_NBL1/DCMI_D3, 143 PDR_ON, 144 VDD

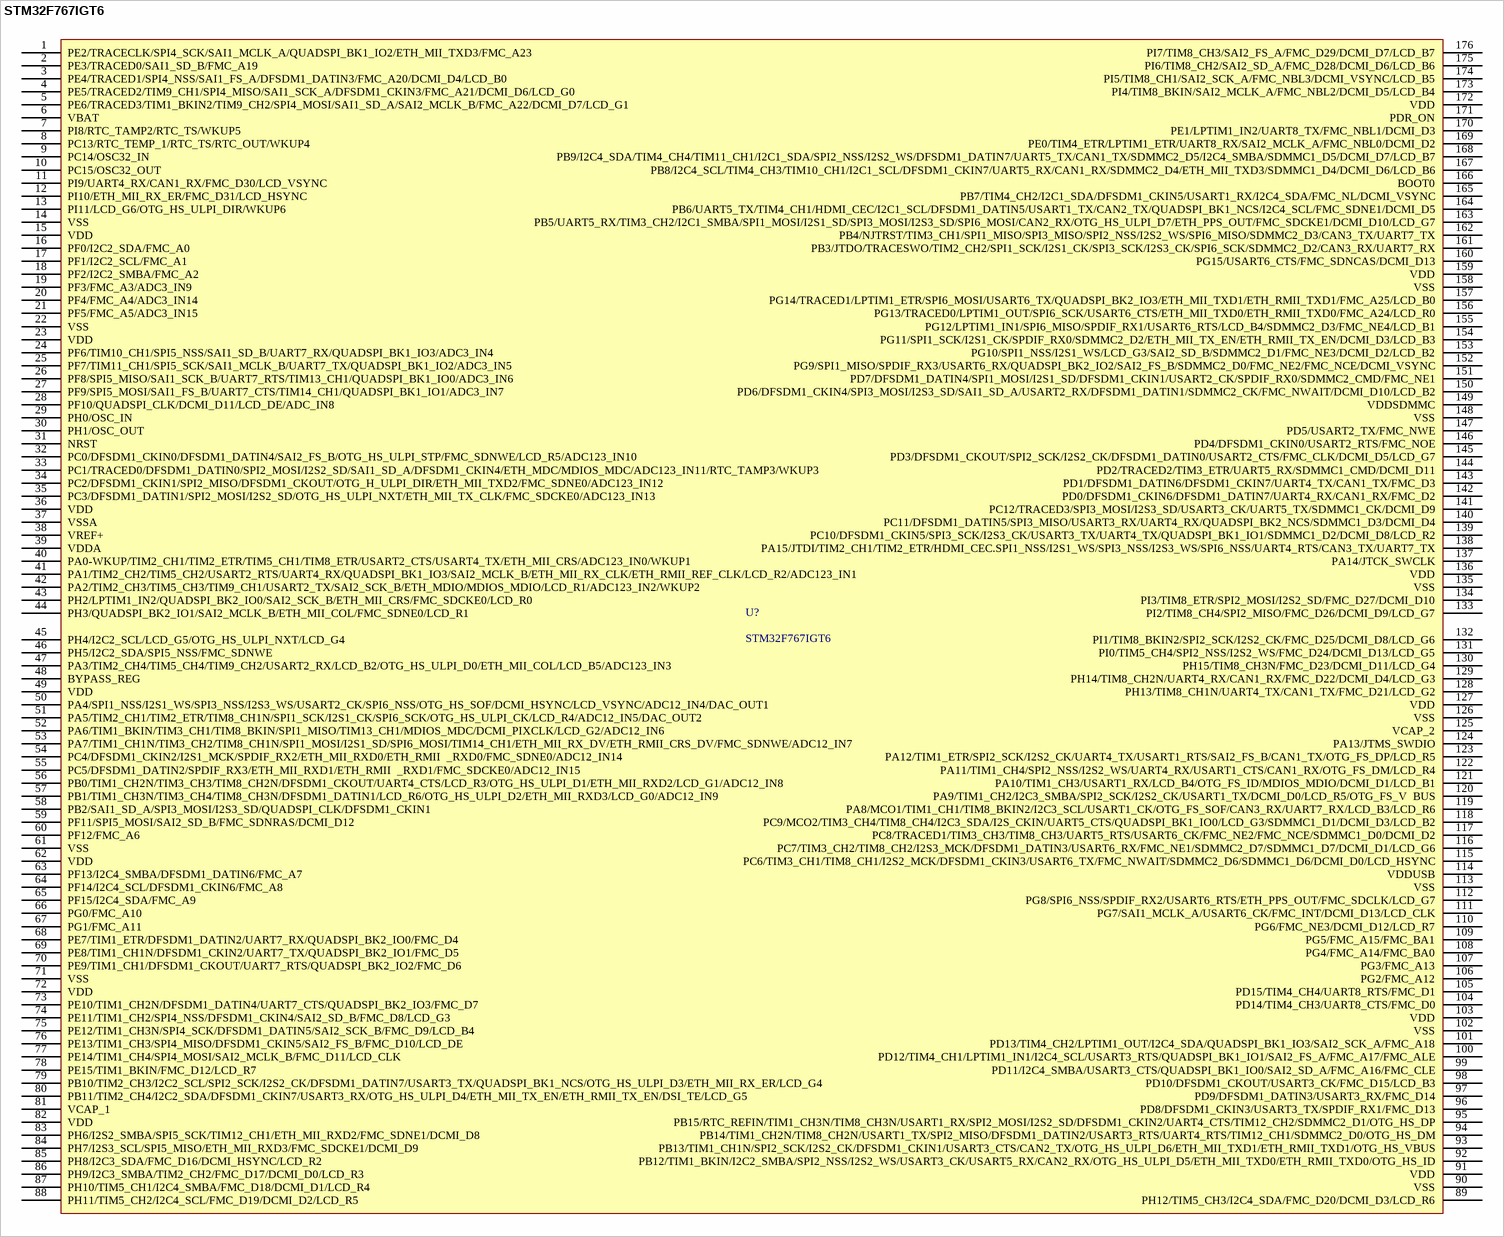
[diagram p3: symbol STM32F767IGT6]

## STM32F767IGT6
designator U?
LQFP-176
pins: 1 PE2/TRACECLK/SPI4_SCK/SAI1_MCLK_A/QUADSPI_BK1_IO2/ETH_MII_TXD3/FMC_A23, 2 PE3/TRACED0/SAI1_SD_B/FMC_A19, 3 PE4/TRACED1/SPI4_NSS/SAI1_FS_A/DFSDM1_DATIN3/FMC_A20/DCMI_D4/LCD_B0, 4 PE5/TRACED2/TIM9_CH1/SPI4_MISO/SAI1_SCK_A/DFSDM1_CKIN3/FMC_A21/DCMI_D6/LCD_G0, 5 PE6/TRACED3/TIM1_BKIN2/TIM9_CH2/SPI4_MOSI/SAI1_SD_A/SAI2_MCLK_B/FMC_A22/DCMI_D7/LCD_G1, 6 VBAT, 7 PI8/RTC_TAMP2/RTC_TS/WKUP5, 8 PC13/RTC_TEMP_1/RTC_TS/RTC_OUT/WKUP4, 9 PC14/OSC32_IN, 10 PC15/OSC32_OUT, 11 PI9/UART4_RX/CAN1_RX/FMC_D30/LCD_VSYNC, 12 PI10/ETH_MII_RX_ER/FMC_D31/LCD_HSYNC, 13 PI11/LCD_G6/OTG_HS_ULPI_DIR/WKUP6, 14 VSS, 15 VDD, 16 PF0/I2C2_SDA/FMC_A0, 17 PF1/I2C2_SCL/FMC_A1, 18 PF2/I2C2_SMBA/FMC_A2, 19 PF3/FMC_A3/ADC3_IN9, 20 PF4/FMC_A4/ADC3_IN14, 21 PF5/FMC_A5/ADC3_IN15, 22 VSS, 23 VDD, 24 PF6/TIM10_CH1/SPI5_NSS/SAI1_SD_B/UART7_RX/QUADSPI_BK1_IO3/ADC3_IN4, 25 PF7/TIM11_CH1/SPI5_SCK/SAI1_MCLK_B/UART7_TX/QUADSPI_BK1_IO2/ADC3_IN5, 26 PF8/SPI5_MISO/SAI1_SCK_B/UART7_RTS/TIM13_CH1/QUADSPI_BK1_IO0/ADC3_IN6, 27 PF9/SPI5_MOSI/SAI1_FS_B/UART7_CTS/TIM14_CH1/QUADSPI_BK1_IO1/ADC3_IN7, 28 PF10/QUADSPI_CLK/DCMI_D11/LCD_DE/ADC_IN8, 29 PH0/OSC_IN, 30 PH1/OSC_OUT, 31 NRST, 32 PC0/DFSDM1_CKIN0/DFSDM1_DATIN4/SAI2_FS_B/OTG_HS_ULPI_STP/FMC_SDNWE/LCD_R5/ADC123_IN10, 33 PC1/TRACED0/DFSDM1_DATIN0/SPI2_MOSI/I2S2_SD/SAI1_SD_A/DFSDM1_CKIN4/ETH_MDC/MDIOS_MDC/ADC123_IN11/RTC_TAMP3/WKUP3, 34 PC2/DFSDM1_CKIN1/SPI2_MISO/DFSDM1_CKOUT/OTG_H_ULPI_DIR/ETH_MII_TXD2/FMC_SDNE0/ADC123_IN12, 35 PC3/DFSDM1_DATIN1/SPI2_MOSI/I2S2_SD/OTG_HS_ULPI_NXT/ETH_MII_TX_CLK/FMC_SDCKE0/ADC123_IN13, 36 VDD, 37 VSSA, 38 VREF+, 39 VDDA, 40 PA0-WKUP/TIM2_CH1/TIM2_ETR/TIM5_CH1/TIM8_ETR/USART2_CTS/USART4_TX/ETH_MII_CRS/ADC123_IN0/WKUP1, 41 PA1/TIM2_CH2/TIM5_CH2/USART2_RTS/UART4_RX/QUADSPI_BK1_IO3/SAI2_MCLK_B/ETH_MII_RX_CLK/ETH_RMII_REF_CLK/LCD_R2/ADC123_IN1, 42 PA2/TIM2_CH3/TIM5_CH3/TIM9_CH1/USART2_TX/SAI2_SCK_B/ETH_MDIO/MDIOS_MDIO/LCD_R1/ADC123_IN2/WKUP2, 43 PH2/LPTIM1_IN2/QUADSPI_BK2_IO0/SAI2_SCK_B/ETH_MII_CRS/FMC_SDCKE0/LCD_R0, 44 PH3/QUADSPI_BK2_IO1/SAI2_MCLK_B/ETH_MII_COL/FMC_SDNE0/LCD_R1, 45 PH4/I2C2_SCL/LCD_G5/OTG_HS_ULPI_NXT/LCD_G4, 46 PH5/I2C2_SDA/SPI5_NSS/FMC_SDNWE, 47 PA3/TIM2_CH4/TIM5_CH4/TIM9_CH2/USART2_RX/LCD_B2/OTG_HS_ULPI_D0/ETH_MII_COL/LCD_B5/ADC123_IN3, 48 BYPASS_REG, 49 VDD, 50 PA4/SPI1_NSS/I2S1_WS/SPI3_NSS/I2S3_WS/USART2_CK/SPI6_NSS/OTG_HS_SOF/DCMI_HSYNC/LCD_VSYNC/ADC12_IN4/DAC_OUT1, 51 PA5/TIM2_CH1/TIM2_ETR/TIM8_CH1N/SPI1_SCK/I2S1_CK/SPI6_SCK/OTG_HS_ULPI_CK/LCD_R4/ADC12_IN5/DAC_OUT2, 52 PA6/TIM1_BKIN/TIM3_CH1/TIM8_BKIN/SPI1_MISO/TIM13_CH1/MDIOS_MDC/DCMI_PIXCLK/LCD_G2/ADC12_IN6, 53 PA7/TIM1_CH1N/TIM3_CH2/TIM8_CH1N/SPI1_MOSI/I2S1_SD/SPI6_MOSI/TIM14_CH1/ETH_MII_RX_DV/ETH_RMII_CRS_DV/FMC_SDNWE/ADC12_IN7, 54 PC4/DFSDM1_CKIN2/I2S1_MCK/SPDIF_RX2/ETH_MII_RXD0/ETH_RMII  _RXD0/FMC_SDNE0/ADC12_IN14, 55 PC5/DFSDM1_DATIN2/SPDIF_RX3/ETH_MII_RXD1/ETH_RMII  _RXD1/FMC_SDCKE0/ADC12_IN15, 56 PB0/TIM1_CH2N/TIM3_CH3/TIM8_CH2N/DFSDM1_CKOUT/UART4_CTS/LCD_R3/OTG_HS_ULPI_D1/ETH_MII_RXD2/LCD_G1/ADC12_IN8, 57 PB1/TIM1_CH3N/TIM3_CH4/TIM8_CH3N/DFSDM1_DATIN1/LCD_R6/OTG_HS_ULPI_D2/ETH_MII_RXD3/LCD_G0/ADC12_IN9, 58 PB2/SAI1_SD_A/SPI3_MOSI/I2S3_SD/QUADSPI_CLK/DFSDM1_CKIN1, 59 PF11/SPI5_MOSI/SAI2_SD_B/FMC_SDNRAS/DCMI_D12, 60 PF12/FMC_A6, 61 VSS, 62 VDD, 63 PF13/I2C4_SMBA/DFSDM1_DATIN6/FMC_A7, 64 PF14/I2C4_SCL/DFSDM1_CKIN6/FMC_A8, 65 PF15/I2C4_SDA/FMC_A9, 66 PG0/FMC_A10, 67 PG1/FMC_A11, 68 PE7/TIM1_ETR/DFSDM1_DATIN2/UART7_RX/QUADSPI_BK2_IO0/FMC_D4, 69 PE8/TIM1_CH1N/DFSDM1_CKIN2/UART7_TX/QUADSPI_BK2_IO1/FMC_D5, 70 PE9/TIM1_CH1/DFSDM1_CKOUT/UART7_RTS/QUADSPI_BK2_IO2/FMC_D6, 71 VSS, 72 VDD, 73 PE10/TIM1_CH2N/DFSDM1_DATIN4/UART7_CTS/QUADSPI_BK2_IO3/FMC_D7, 74 PE11/TIM1_CH2/SPI4_NSS/DFSDM1_CKIN4/SAI2_SD_B/FMC_D8/LCD_G3, 75 PE12/TIM1_CH3N/SPI4_SCK/DFSDM1_DATIN5/SAI2_SCK_B/FMC_D9/LCD_B4, 76 PE13/TIM1_CH3/SPI4_MISO/DFSDM1_CKIN5/SAI2_FS_B/FMC_D10/LCD_DE, 77 PE14/TIM1_CH4/SPI4_MOSI/SAI2_MCLK_B/FMC_D11/LCD_CLK, 78 PE15/TIM1_BKIN/FMC_D12/LCD_R7, 79 PB10/TIM2_CH3/I2C2_SCL/SPI2_SCK/I2S2_CK/DFSDM1_DATIN7/USART3_TX/QUADSPI_BK1_NCS/OTG_HS_ULPI_D3/ETH_MII_RX_ER/LCD_G4, 80 PB11/TIM2_CH4/I2C2_SDA/DFSDM1_CKIN7/USART3_RX/OTG_HS_ULPI_D4/ETH_MII_TX_EN/ETH_RMII_TX_EN/DSI_TE/LCD_G5, 81 VCAP_1, 82 VDD, 83 PH6/I2S2_SMBA/SPI5_SCK/TIM12_CH1/ETH_MII_RXD2/FMC_SDNE1/DCMI_D8, 84 PH7/I2S3_SCL/SPI5_MISO/ETH_MII_RXD3/FMC_SDCKE1/DCMI_D9, 85 PH8/I2C3_SDA/FMC_D16/DCMI_HSYNC/LCD_R2, 86 PH9/I2C3_SMBA/TIM2_CH2/FMC_D17/DCMI_D0/LCD_R3, 87 PH10/TIM5_CH1/I2C4_SMBA/FMC_D18/DCMI_D1/LCD_R4, 88 PH11/TIM5_CH2/I2C4_SCL/FMC_D19/DCMI_D2/LCD_R5, 89 PH12/TIM5_CH3/I2C4_SDA/FMC_D20/DCMI_D3/LCD_R6, 90 VSS, 91 VDD, 92 PB12/TIM1_BKIN/I2C2_SMBA/SPI2_NSS/I2S2_WS/USART3_CK/USART5_RX/CAN2_RX/OTG_HS_ULPI_D5/ETH_MII_TXD0/ETH_RMII_TXD0/OTG_HS_ID, 93 PB13/TIM1_CH1N/SPI2_SCK/I2S2_CK/DFSDM1_CKIN1/USART3_CTS/CAN2_TX/OTG_HS_ULPI_D6/ETH_MII_TXD1/ETH_RMII_TXD1/OTG_HS_VBUS, 94 PB14/TIM1_CH2N/TIM8_CH2N/USART1_TX/SPI2_MISO/DFSDM1_DATIN2/USART3_RTS/UART4_RTS/TIM12_CH1/SDMMC2_D0/OTG_HS_DM, 95 PB15/RTC_REFIN/TIM1_CH3N/TIM8_CH3N/USART1_RX/SPI2_MOSI/I2S2_SD/DFSDM1_CKIN2/UART4_CTS/TIM12_CH2/SDMMC2_D1/OTG_HS_DP, 96 PD8/DFSDM1_CKIN3/USART3_TX/SPDIF_RX1/FMC_D13, 97 PD9/DFSDM1_DATIN3/USART3_RX/FMC_D14, 98 PD10/DFSDM1_CKOUT/USART3_CK/FMC_D15/LCD_B3, 99 PD11/I2C4_SMBA/USART3_CTS/QUADSPI_BK1_IO0/SAI2_SD_A/FMC_A16/FMC_CLE, 100 PD12/TIM4_CH1/LPTIM1_IN1/I2C4_SCL/USART3_RTS/QUADSPI_BK1_IO1/SAI2_FS_A/FMC_A17/FMC_ALE, 101 PD13/TIM4_CH2/LPTIM1_OUT/I2C4_SDA/QUADSPI_BK1_IO3/SAI2_SCK_A/FMC_A18, 102 VSS, 103 VDD, 104 PD14/TIM4_CH3/UART8_CTS/FMC_D0, 105 PD15/TIM4_CH4/UART8_RTS/FMC_D1, 106 PG2/FMC_A12, 107 PG3/FMC_A13, 108 PG4/FMC_A14/FMC_BA0, 109 PG5/FMC_A15/FMC_BA1, 110 PG6/FMC_NE3/DCMI_D12/LCD_R7, 111 PG7/SAI1_MCLK_A/USART6_CK/FMC_INT/DCMI_D13/LCD_CLK, 112 PG8/SPI6_NSS/SPDIF_RX2/USART6_RTS/ETH_PPS_OUT/FMC_SDCLK/LCD_G7, 113 VSS, 114 VDDUSB, 115 PC6/TIM3_CH1/TIM8_CH1/I2S2_MCK/DFSDM1_CKIN3/USART6_TX/FMC_NWAIT/SDMMC2_D6/SDMMC1_D6/DCMI_D0/LCD_HSYNC, 116 PC7/TIM3_CH2/TIM8_CH2/I2S3_MCK/DFSDM1_DATIN3/USART6_RX/FMC_NE1/SDMMC2_D7/SDMMC1_D7/DCMI_D1/LCD_G6, 117 PC8/TRACED1/TIM3_CH3/TIM8_CH3/UART5_RTS/USART6_CK/FMC_NE2/FMC_NCE/SDMMC1_D0/DCMI_D2, 118 PC9/MCO2/TIM3_CH4/TIM8_CH4/I2C3_SDA/I2S_CKIN/UART5_CTS/QUADSPI_BK1_IO0/LCD_G3/SDMMC1_D1/DCMI_D3/LCD_B2, 119 PA8/MCO1/TIM1_CH1/TIM8_BKIN2/I2C3_SCL/USART1_CK/OTG_FS_SOF/CAN3_RX/UART7_RX/LCD_B3/LCD_R6, 120 PA9/TIM1_CH2/I2C3_SMBA/SPI2_SCK/I2S2_CK/USART1_TX/DCMI_D0/LCD_R5/OTG_FS_V  BUS, 121 PA10/TIM1_CH3/USART1_RX/LCD_B4/OTG_FS_ID/MDIOS_MDIO/DCMI_D1/LCD_B1, 122 PA11/TIM1_CH4/SPI2_NSS/I2S2_WS/UART4_RX/USART1_CTS/CAN1_RX/OTG_FS_DM/LCD_R4, 123 PA12/TIM1_ETR/SPI2_SCK/I2S2_CK/UART4_TX/USART1_RTS/SAI2_FS_B/CAN1_TX/OTG_FS_DP/LCD_R5, 124 PA13/JTMS_SWDIO, 125 VCAP_2, 126 VSS, 127 VDD, 128 PH13/TIM8_CH1N/UART4_TX/CAN1_TX/FMC_D21/LCD_G2, 129 PH14/TIM8_CH2N/UART4_RX/CAN1_RX/FMC_D22/DCMI_D4/LCD_G3, 130 PH15/TIM8_CH3N/FMC_D23/DCMI_D11/LCD_G4, 131 PI0/TIM5_CH4/SPI2_NSS/I2S2_WS/FMC_D24/DCMI_D13/LCD_G5, 132 PI1/TIM8_BKIN2/SPI2_SCK/I2S2_CK/FMC_D25/DCMI_D8/LCD_G6, 133 PI2/TIM8_CH4/SPI2_MISO/FMC_D26/DCMI_D9/LCD_G7, 134 PI3/TIM8_ETR/SPI2_MOSI/I2S2_SD/FMC_D27/DCMI_D10, 135 VSS, 136 VDD, 137 PA14/JTCK_SWCLK, 138 PA15/JTDI/TIM2_CH1/TIM2_ETR/HDMI_CEC.SPI1_NSS/I2S1_WS/SPI3_NSS/I2S3_WS/SPI6_NSS/UART4_RTS/CAN3_TX/UART7_TX, 139 PC10/DFSDM1_CKIN5/SPI3_SCK/I2S3_CK/USART3_TX/UART4_TX/QUADSPI_BK1_IO1/SDMMC1_D2/DCMI_D8/LCD_R2, 140 PC11/DFSDM1_DATIN5/SPI3_MISO/USART3_RX/UART4_RX/QUADSPI_BK2_NCS/SDMMC1_D3/DCMI_D4, 141 PC12/TRACED3/SPI3_MOSI/I2S3_SD/USART3_CK/UART5_TX/SDMMC1_CK/DCMI_D9, 142 PD0/DFSDM1_CKIN6/DFSDM1_DATIN7/UART4_RX/CAN1_RX/FMC_D2, 143 PD1/DFSDM1_DATIN6/DFSDM1_CKIN7/UART4_TX/CAN1_TX/FMC_D3, 144 PD2/TRACED2/TIM3_ETR/UART5_RX/SDMMC1_CMD/DCMI_D11, 145 PD3/DFSDM1_CKOUT/SPI2_SCK/I2S2_CK/DFSDM1_DATIN0/USART2_CTS/FMC_CLK/DCMI_D5/LCD_G7, 146 PD4/DFSDM1_CKIN0/USART2_RTS/FMC_NOE, 147 PD5/USART2_TX/FMC_NWE, 148 VSS, 149 VDDSDMMC, 150 PD6/DFSDM1_CKIN4/SPI3_MOSI/I2S3_SD/SAI1_SD_A/USART2_RX/DFSDM1_DATIN1/SDMMC2_CK/FMC_NWAIT/DCMI_D10/LCD_B2, 151 PD7/DFSDM1_DATIN4/SPI1_MOSI/I2S1_SD/DFSDM1_CKIN1/USART2_CK/SPDIF_RX0/SDMMC2_CMD/FMC_NE1, 152 PG9/SPI1_MISO/SPDIF_RX3/USART6_RX/QUADSPI_BK2_IO2/SAI2_FS_B/SDMMC2_D0/FMC_NE2/FMC_NCE/DCMI_VSYNC, 153 PG10/SPI1_NSS/I2S1_WS/LCD_G3/SAI2_SD_B/SDMMC2_D1/FMC_NE3/DCMI_D2/LCD_B2, 154 PG11/SPI1_SCK/I2S1_CK/SPDIF_RX0/SDMMC2_D2/ETH_MII_TX_EN/ETH_RMII_TX_EN/DCMI_D3/LCD_B3, 155 PG12/LPTIM1_IN1/SPI6_MISO/SPDIF_RX1/USART6_RTS/LCD_B4/SDMMC2_D3/FMC_NE4/LCD_B1, 156 PG13/TRACED0/LPTIM1_OUT/SPI6_SCK/USART6_CTS/ETH_MII_TXD0/ETH_RMII_TXD0/FMC_A24/LCD_R0, 157 PG14/TRACED1/LPTIM1_ETR/SPI6_MOSI/USART6_TX/QUADSPI_BK2_IO3/ETH_MII_TXD1/ETH_RMII_TXD1/FMC_A25/LCD_B0, 158 VSS, 159 VDD, 160 PG15/USART6_CTS/FMC_SDNCAS/DCMI_D13, 161 PB3/JTDO/TRACESWO/TIM2_CH2/SPI1_SCK/I2S1_CK/SPI3_SCK/I2S3_CK/SPI6_SCK/SDMMC2_D2/CAN3_RX/UART7_RX, 162 PB4/NJTRST/TIM3_CH1/SPI1_MISO/SPI3_MISO/SPI2_NSS/I2S2_WS/SPI6_MISO/SDMMC2_D3/CAN3_TX/UART7_TX, 163 PB5/UART5_RX/TIM3_CH2/I2C1_SMBA/SPI1_MOSI/I2S1_SD/SPI3_MOSI/I2S3_SD/SPI6_MOSI/CAN2_RX/OTG_HS_ULPI_D7/ETH_PPS_OUT/FMC_SDCKE1/DCMI_D10/LCD_G7, 164 PB6/UART5_TX/TIM4_CH1/HDMI_CEC/I2C1_SCL/DFSDM1_DATIN5/USART1_TX/CAN2_TX/QUADSPI_BK1_NCS/I2C4_SCL/FMC_SDNE1/DCMI_D5, 165 PB7/TIM4_CH2/I2C1_SDA/DFSDM1_CKIN5/USART1_RX/I2C4_SDA/FMC_NL/DCMI_VSYNC, 166 BOOT0, 167 PB8/I2C4_SCL/TIM4_CH3/TIM10_CH1/I2C1_SCL/DFSDM1_CKIN7/UART5_RX/CAN1_RX/SDMMC2_D4/ETH_MII_TXD3/SDMMC1_D4/DCMI_D6/LCD_B6, 168 PB9/I2C4_SDA/TIM4_CH4/TIM11_CH1/I2C1_SDA/SPI2_NSS/I2S2_WS/DFSDM1_DATIN7/UART5_TX/CAN1_TX/SDMMC2_D5/I2C4_SMBA/SDMMC1_D5/DCMI_D7/LCD_B7, 169 PE0/TIM4_ETR/LPTIM1_ETR/UART8_RX/SAI2_MCLK_A/FMC_NBL0/DCMI_D2, 170 PE1/LPTIM1_IN2/UART8_TX/FMC_NBL1/DCMI_D3, 171 PDR_ON, 172 VDD, 173 PI4/TIM8_BKIN/SAI2_MCLK_A/FMC_NBL2/DCMI_D5/LCD_B4, 174 PI5/TIM8_CH1/SAI2_SCK_A/FMC_NBL3/DCMI_VSYNC/LCD_B5, 175 PI6/TIM8_CH2/SAI2_SD_A/FMC_D28/DCMI_D6/LCD_B6, 176 PI7/TIM8_CH3/SAI2_FS_A/FMC_D29/DCMI_D7/LCD_B7

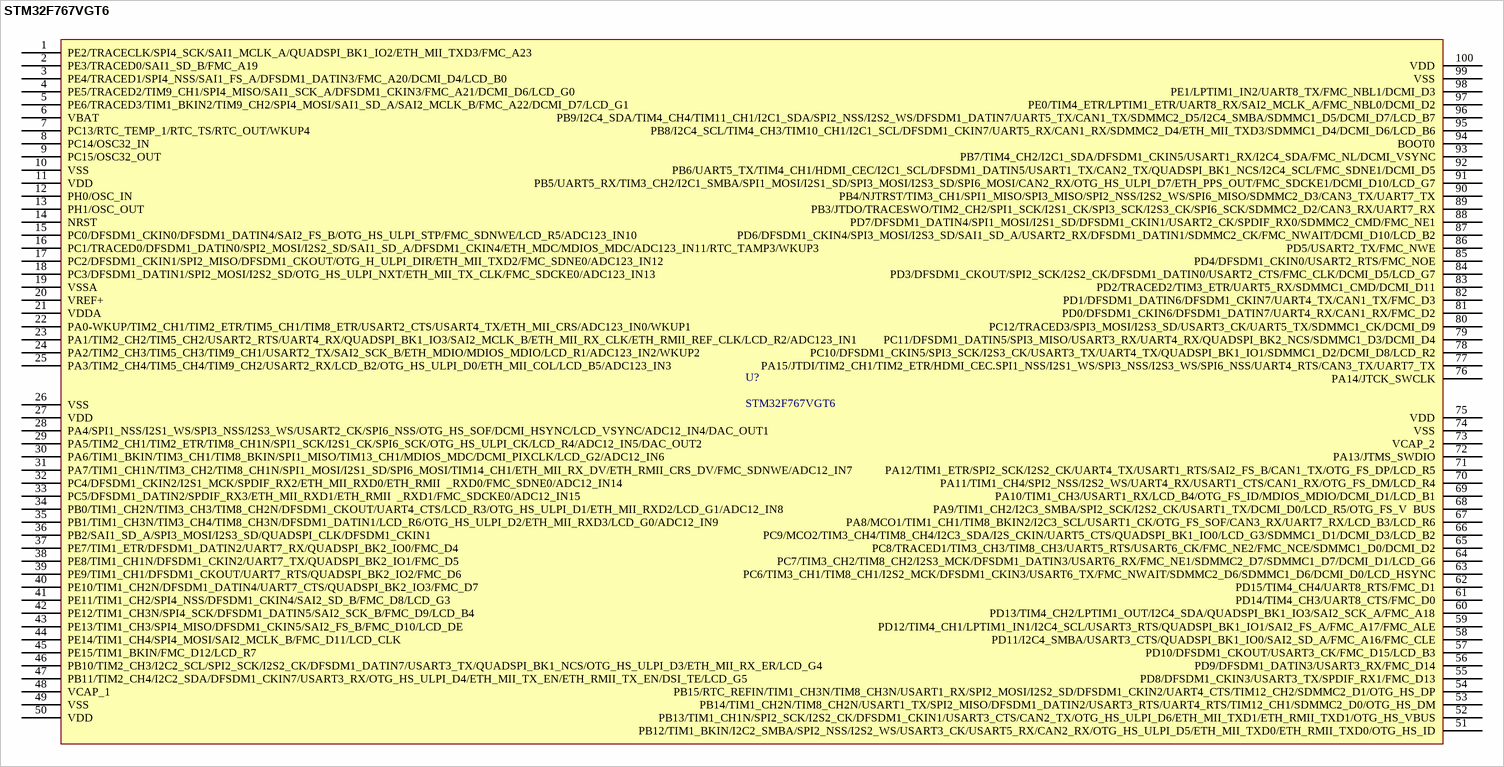
[diagram p4: symbol STM32F767VGT6]

## STM32F767VGT6
designator U?
LQFP-100
pins: 1 PE2/TRACECLK/SPI4_SCK/SAI1_MCLK_A/QUADSPI_BK1_IO2/ETH_MII_TXD3/FMC_A23, 2 PE3/TRACED0/SAI1_SD_B/FMC_A19, 3 PE4/TRACED1/SPI4_NSS/SAI1_FS_A/DFSDM1_DATIN3/FMC_A20/DCMI_D4/LCD_B0, 4 PE5/TRACED2/TIM9_CH1/SPI4_MISO/SAI1_SCK_A/DFSDM1_CKIN3/FMC_A21/DCMI_D6/LCD_G0, 5 PE6/TRACED3/TIM1_BKIN2/TIM9_CH2/SPI4_MOSI/SAI1_SD_A/SAI2_MCLK_B/FMC_A22/DCMI_D7/LCD_G1, 6 VBAT, 7 PC13/RTC_TEMP_1/RTC_TS/RTC_OUT/WKUP4, 8 PC14/OSC32_IN, 9 PC15/OSC32_OUT, 10 VSS, 11 VDD, 12 PH0/OSC_IN, 13 PH1/OSC_OUT, 14 NRST, 15 PC0/DFSDM1_CKIN0/DFSDM1_DATIN4/SAI2_FS_B/OTG_HS_ULPI_STP/FMC_SDNWE/LCD_R5/ADC123_IN10, 16 PC1/TRACED0/DFSDM1_DATIN0/SPI2_MOSI/I2S2_SD/SAI1_SD_A/DFSDM1_CKIN4/ETH_MDC/MDIOS_MDC/ADC123_IN11/RTC_TAMP3/WKUP3, 17 PC2/DFSDM1_CKIN1/SPI2_MISO/DFSDM1_CKOUT/OTG_H_ULPI_DIR/ETH_MII_TXD2/FMC_SDNE0/ADC123_IN12, 18 PC3/DFSDM1_DATIN1/SPI2_MOSI/I2S2_SD/OTG_HS_ULPI_NXT/ETH_MII_TX_CLK/FMC_SDCKE0/ADC123_IN13, 19 VSSA, 20 VREF+, 21 VDDA, 22 PA0-WKUP/TIM2_CH1/TIM2_ETR/TIM5_CH1/TIM8_ETR/USART2_CTS/USART4_TX/ETH_MII_CRS/ADC123_IN0/WKUP1, 23 PA1/TIM2_CH2/TIM5_CH2/USART2_RTS/UART4_RX/QUADSPI_BK1_IO3/SAI2_MCLK_B/ETH_MII_RX_CLK/ETH_RMII_REF_CLK/LCD_R2/ADC123_IN1, 24 PA2/TIM2_CH3/TIM5_CH3/TIM9_CH1/USART2_TX/SAI2_SCK_B/ETH_MDIO/MDIOS_MDIO/LCD_R1/ADC123_IN2/WKUP2, 25 PA3/TIM2_CH4/TIM5_CH4/TIM9_CH2/USART2_RX/LCD_B2/OTG_HS_ULPI_D0/ETH_MII_COL/LCD_B5/ADC123_IN3, 26 VSS, 27 VDD, 28 PA4/SPI1_NSS/I2S1_WS/SPI3_NSS/I2S3_WS/USART2_CK/SPI6_NSS/OTG_HS_SOF/DCMI_HSYNC/LCD_VSYNC/ADC12_IN4/DAC_OUT1, 29 PA5/TIM2_CH1/TIM2_ETR/TIM8_CH1N/SPI1_SCK/I2S1_CK/SPI6_SCK/OTG_HS_ULPI_CK/LCD_R4/ADC12_IN5/DAC_OUT2, 30 PA6/TIM1_BKIN/TIM3_CH1/TIM8_BKIN/SPI1_MISO/TIM13_CH1/MDIOS_MDC/DCMI_PIXCLK/LCD_G2/ADC12_IN6, 31 PA7/TIM1_CH1N/TIM3_CH2/TIM8_CH1N/SPI1_MOSI/I2S1_SD/SPI6_MOSI/TIM14_CH1/ETH_MII_RX_DV/ETH_RMII_CRS_DV/FMC_SDNWE/ADC12_IN7, 32 PC4/DFSDM1_CKIN2/I2S1_MCK/SPDIF_RX2/ETH_MII_RXD0/ETH_RMII  _RXD0/FMC_SDNE0/ADC12_IN14, 33 PC5/DFSDM1_DATIN2/SPDIF_RX3/ETH_MII_RXD1/ETH_RMII  _RXD1/FMC_SDCKE0/ADC12_IN15, 34 PB0/TIM1_CH2N/TIM3_CH3/TIM8_CH2N/DFSDM1_CKOUT/UART4_CTS/LCD_R3/OTG_HS_ULPI_D1/ETH_MII_RXD2/LCD_G1/ADC12_IN8, 35 PB1/TIM1_CH3N/TIM3_CH4/TIM8_CH3N/DFSDM1_DATIN1/LCD_R6/OTG_HS_ULPI_D2/ETH_MII_RXD3/LCD_G0/ADC12_IN9, 36 PB2/SAI1_SD_A/SPI3_MOSI/I2S3_SD/QUADSPI_CLK/DFSDM1_CKIN1, 37 PE7/TIM1_ETR/DFSDM1_DATIN2/UART7_RX/QUADSPI_BK2_IO0/FMC_D4, 38 PE8/TIM1_CH1N/DFSDM1_CKIN2/UART7_TX/QUADSPI_BK2_IO1/FMC_D5, 39 PE9/TIM1_CH1/DFSDM1_CKOUT/UART7_RTS/QUADSPI_BK2_IO2/FMC_D6, 40 PE10/TIM1_CH2N/DFSDM1_DATIN4/UART7_CTS/QUADSPI_BK2_IO3/FMC_D7, 41 PE11/TIM1_CH2/SPI4_NSS/DFSDM1_CKIN4/SAI2_SD_B/FMC_D8/LCD_G3, 42 PE12/TIM1_CH3N/SPI4_SCK/DFSDM1_DATIN5/SAI2_SCK_B/FMC_D9/LCD_B4, 43 PE13/TIM1_CH3/SPI4_MISO/DFSDM1_CKIN5/SAI2_FS_B/FMC_D10/LCD_DE, 44 PE14/TIM1_CH4/SPI4_MOSI/SAI2_MCLK_B/FMC_D11/LCD_CLK, 45 PE15/TIM1_BKIN/FMC_D12/LCD_R7, 46 PB10/TIM2_CH3/I2C2_SCL/SPI2_SCK/I2S2_CK/DFSDM1_DATIN7/USART3_TX/QUADSPI_BK1_NCS/OTG_HS_ULPI_D3/ETH_MII_RX_ER/LCD_G4, 47 PB11/TIM2_CH4/I2C2_SDA/DFSDM1_CKIN7/USART3_RX/OTG_HS_ULPI_D4/ETH_MII_TX_EN/ETH_RMII_TX_EN/DSI_TE/LCD_G5, 48 VCAP_1, 49 VSS, 50 VDD, 51 PB12/TIM1_BKIN/I2C2_SMBA/SPI2_NSS/I2S2_WS/USART3_CK/USART5_RX/CAN2_RX/OTG_HS_ULPI_D5/ETH_MII_TXD0/ETH_RMII_TXD0/OTG_HS_ID, 52 PB13/TIM1_CH1N/SPI2_SCK/I2S2_CK/DFSDM1_CKIN1/USART3_CTS/CAN2_TX/OTG_HS_ULPI_D6/ETH_MII_TXD1/ETH_RMII_TXD1/OTG_HS_VBUS, 53 PB14/TIM1_CH2N/TIM8_CH2N/USART1_TX/SPI2_MISO/DFSDM1_DATIN2/USART3_RTS/UART4_RTS/TIM12_CH1/SDMMC2_D0/OTG_HS_DM, 54 PB15/RTC_REFIN/TIM1_CH3N/TIM8_CH3N/USART1_RX/SPI2_MOSI/I2S2_SD/DFSDM1_CKIN2/UART4_CTS/TIM12_CH2/SDMMC2_D1/OTG_HS_DP, 55 PD8/DFSDM1_CKIN3/USART3_TX/SPDIF_RX1/FMC_D13, 56 PD9/DFSDM1_DATIN3/USART3_RX/FMC_D14, 57 PD10/DFSDM1_CKOUT/USART3_CK/FMC_D15/LCD_B3, 58 PD11/I2C4_SMBA/USART3_CTS/QUADSPI_BK1_IO0/SAI2_SD_A/FMC_A16/FMC_CLE, 59 PD12/TIM4_CH1/LPTIM1_IN1/I2C4_SCL/USART3_RTS/QUADSPI_BK1_IO1/SAI2_FS_A/FMC_A17/FMC_ALE, 60 PD13/TIM4_CH2/LPTIM1_OUT/I2C4_SDA/QUADSPI_BK1_IO3/SAI2_SCK_A/FMC_A18, 61 PD14/TIM4_CH3/UART8_CTS/FMC_D0, 62 PD15/TIM4_CH4/UART8_RTS/FMC_D1, 63 PC6/TIM3_CH1/TIM8_CH1/I2S2_MCK/DFSDM1_CKIN3/USART6_TX/FMC_NWAIT/SDMMC2_D6/SDMMC1_D6/DCMI_D0/LCD_HSYNC, 64 PC7/TIM3_CH2/TIM8_CH2/I2S3_MCK/DFSDM1_DATIN3/USART6_RX/FMC_NE1/SDMMC2_D7/SDMMC1_D7/DCMI_D1/LCD_G6, 65 PC8/TRACED1/TIM3_CH3/TIM8_CH3/UART5_RTS/USART6_CK/FMC_NE2/FMC_NCE/SDMMC1_D0/DCMI_D2, 66 PC9/MCO2/TIM3_CH4/TIM8_CH4/I2C3_SDA/I2S_CKIN/UART5_CTS/QUADSPI_BK1_IO0/LCD_G3/SDMMC1_D1/DCMI_D3/LCD_B2, 67 PA8/MCO1/TIM1_CH1/TIM8_BKIN2/I2C3_SCL/USART1_CK/OTG_FS_SOF/CAN3_RX/UART7_RX/LCD_B3/LCD_R6, 68 PA9/TIM1_CH2/I2C3_SMBA/SPI2_SCK/I2S2_CK/USART1_TX/DCMI_D0/LCD_R5/OTG_FS_V  BUS, 69 PA10/TIM1_CH3/USART1_RX/LCD_B4/OTG_FS_ID/MDIOS_MDIO/DCMI_D1/LCD_B1, 70 PA11/TIM1_CH4/SPI2_NSS/I2S2_WS/UART4_RX/USART1_CTS/CAN1_RX/OTG_FS_DM/LCD_R4, 71 PA12/TIM1_ETR/SPI2_SCK/I2S2_CK/UART4_TX/USART1_RTS/SAI2_FS_B/CAN1_TX/OTG_FS_DP/LCD_R5, 72 PA13/JTMS_SWDIO, 73 VCAP_2, 74 VSS, 75 VDD, 76 PA14/JTCK_SWCLK, 77 PA15/JTDI/TIM2_CH1/TIM2_ETR/HDMI_CEC.SPI1_NSS/I2S1_WS/SPI3_NSS/I2S3_WS/SPI6_NSS/UART4_RTS/CAN3_TX/UART7_TX, 78 PC10/DFSDM1_CKIN5/SPI3_SCK/I2S3_CK/USART3_TX/UART4_TX/QUADSPI_BK1_IO1/SDMMC1_D2/DCMI_D8/LCD_R2, 79 PC11/DFSDM1_DATIN5/SPI3_MISO/USART3_RX/UART4_RX/QUADSPI_BK2_NCS/SDMMC1_D3/DCMI_D4, 80 PC12/TRACED3/SPI3_MOSI/I2S3_SD/USART3_CK/UART5_TX/SDMMC1_CK/DCMI_D9, 81 PD0/DFSDM1_CKIN6/DFSDM1_DATIN7/UART4_RX/CAN1_RX/FMC_D2, 82 PD1/DFSDM1_DATIN6/DFSDM1_CKIN7/UART4_TX/CAN1_TX/FMC_D3, 83 PD2/TRACED2/TIM3_ETR/UART5_RX/SDMMC1_CMD/DCMI_D11, 84 PD3/DFSDM1_CKOUT/SPI2_SCK/I2S2_CK/DFSDM1_DATIN0/USART2_CTS/FMC_CLK/DCMI_D5/LCD_G7, 85 PD4/DFSDM1_CKIN0/USART2_RTS/FMC_NOE, 86 PD5/USART2_TX/FMC_NWE, 87 PD6/DFSDM1_CKIN4/SPI3_MOSI/I2S3_SD/SAI1_SD_A/USART2_RX/DFSDM1_DATIN1/SDMMC2_CK/FMC_NWAIT/DCMI_D10/LCD_B2, 88 PD7/DFSDM1_DATIN4/SPI1_MOSI/I2S1_SD/DFSDM1_CKIN1/USART2_CK/SPDIF_RX0/SDMMC2_CMD/FMC_NE1, 89 PB3/JTDO/TRACESWO/TIM2_CH2/SPI1_SCK/I2S1_CK/SPI3_SCK/I2S3_CK/SPI6_SCK/SDMMC2_D2/CAN3_RX/UART7_RX, 90 PB4/NJTRST/TIM3_CH1/SPI1_MISO/SPI3_MISO/SPI2_NSS/I2S2_WS/SPI6_MISO/SDMMC2_D3/CAN3_TX/UART7_TX, 91 PB5/UART5_RX/TIM3_CH2/I2C1_SMBA/SPI1_MOSI/I2S1_SD/SPI3_MOSI/I2S3_SD/SPI6_MOSI/CAN2_RX/OTG_HS_ULPI_D7/ETH_PPS_OUT/FMC_SDCKE1/DCMI_D10/LCD_G7, 92 PB6/UART5_TX/TIM4_CH1/HDMI_CEC/I2C1_SCL/DFSDM1_DATIN5/USART1_TX/CAN2_TX/QUADSPI_BK1_NCS/I2C4_SCL/FMC_SDNE1/DCMI_D5, 93 PB7/TIM4_CH2/I2C1_SDA/DFSDM1_CKIN5/USART1_RX/I2C4_SDA/FMC_NL/DCMI_VSYNC, 94 BOOT0, 95 PB8/I2C4_SCL/TIM4_CH3/TIM10_CH1/I2C1_SCL/DFSDM1_CKIN7/UART5_RX/CAN1_RX/SDMMC2_D4/ETH_MII_TXD3/SDMMC1_D4/DCMI_D6/LCD_B6, 96 PB9/I2C4_SDA/TIM4_CH4/TIM11_CH1/I2C1_SDA/SPI2_NSS/I2S2_WS/DFSDM1_DATIN7/UART5_TX/CAN1_TX/SDMMC2_D5/I2C4_SMBA/SDMMC1_D5/DCMI_D7/LCD_B7, 97 PE0/TIM4_ETR/LPTIM1_ETR/UART8_RX/SAI2_MCLK_A/FMC_NBL0/DCMI_D2, 98 PE1/LPTIM1_IN2/UART8_TX/FMC_NBL1/DCMI_D3, 99 VSS, 100 VDD

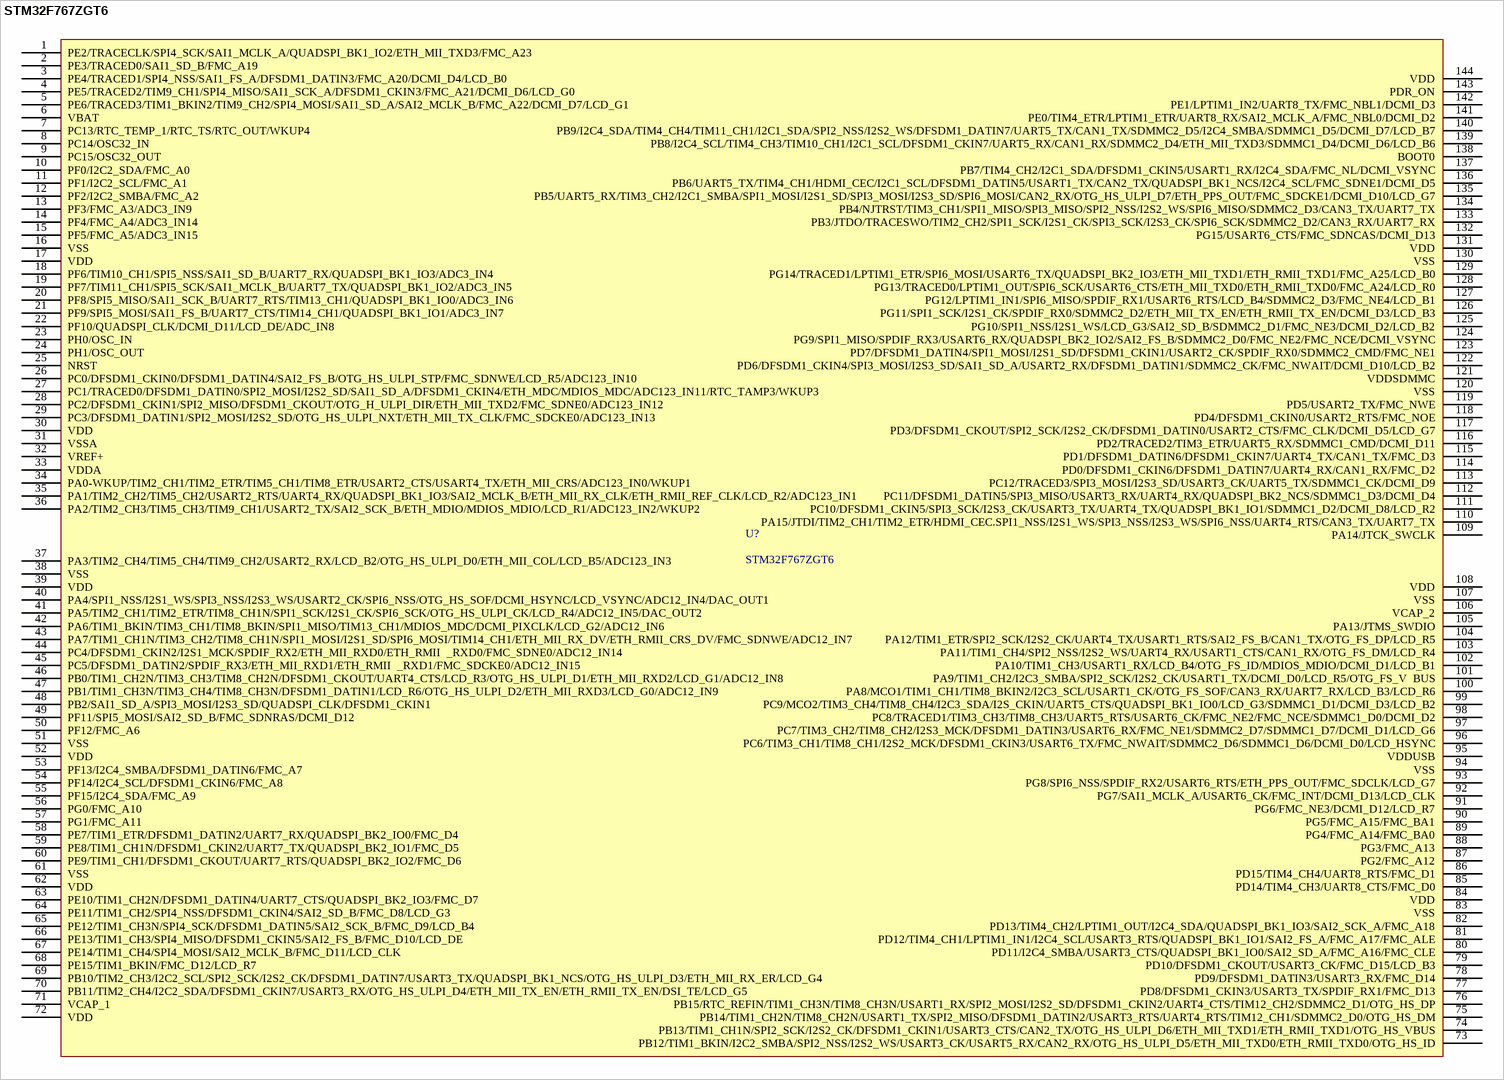
[diagram p5: symbol STM32F767ZGT6]

## STM32F767ZGT6
designator U?
LQFP-144
pins: 1 PE2/TRACECLK/SPI4_SCK/SAI1_MCLK_A/QUADSPI_BK1_IO2/ETH_MII_TXD3/FMC_A23, 2 PE3/TRACED0/SAI1_SD_B/FMC_A19, 3 PE4/TRACED1/SPI4_NSS/SAI1_FS_A/DFSDM1_DATIN3/FMC_A20/DCMI_D4/LCD_B0, 4 PE5/TRACED2/TIM9_CH1/SPI4_MISO/SAI1_SCK_A/DFSDM1_CKIN3/FMC_A21/DCMI_D6/LCD_G0, 5 PE6/TRACED3/TIM1_BKIN2/TIM9_CH2/SPI4_MOSI/SAI1_SD_A/SAI2_MCLK_B/FMC_A22/DCMI_D7/LCD_G1, 6 VBAT, 7 PC13/RTC_TEMP_1/RTC_TS/RTC_OUT/WKUP4, 8 PC14/OSC32_IN, 9 PC15/OSC32_OUT, 10 PF0/I2C2_SDA/FMC_A0, 11 PF1/I2C2_SCL/FMC_A1, 12 PF2/I2C2_SMBA/FMC_A2, 13 PF3/FMC_A3/ADC3_IN9, 14 PF4/FMC_A4/ADC3_IN14, 15 PF5/FMC_A5/ADC3_IN15, 16 VSS, 17 VDD, 18 PF6/TIM10_CH1/SPI5_NSS/SAI1_SD_B/UART7_RX/QUADSPI_BK1_IO3/ADC3_IN4, 19 PF7/TIM11_CH1/SPI5_SCK/SAI1_MCLK_B/UART7_TX/QUADSPI_BK1_IO2/ADC3_IN5, 20 PF8/SPI5_MISO/SAI1_SCK_B/UART7_RTS/TIM13_CH1/QUADSPI_BK1_IO0/ADC3_IN6, 21 PF9/SPI5_MOSI/SAI1_FS_B/UART7_CTS/TIM14_CH1/QUADSPI_BK1_IO1/ADC3_IN7, 22 PF10/QUADSPI_CLK/DCMI_D11/LCD_DE/ADC_IN8, 23 PH0/OSC_IN, 24 PH1/OSC_OUT, 25 NRST, 26 PC0/DFSDM1_CKIN0/DFSDM1_DATIN4/SAI2_FS_B/OTG_HS_ULPI_STP/FMC_SDNWE/LCD_R5/ADC123_IN10, 27 PC1/TRACED0/DFSDM1_DATIN0/SPI2_MOSI/I2S2_SD/SAI1_SD_A/DFSDM1_CKIN4/ETH_MDC/MDIOS_MDC/ADC123_IN11/RTC_TAMP3/WKUP3, 28 PC2/DFSDM1_CKIN1/SPI2_MISO/DFSDM1_CKOUT/OTG_H_ULPI_DIR/ETH_MII_TXD2/FMC_SDNE0/ADC123_IN12, 29 PC3/DFSDM1_DATIN1/SPI2_MOSI/I2S2_SD/OTG_HS_ULPI_NXT/ETH_MII_TX_CLK/FMC_SDCKE0/ADC123_IN13, 30 VDD, 31 VSSA, 32 VREF+, 33 VDDA, 34 PA0-WKUP/TIM2_CH1/TIM2_ETR/TIM5_CH1/TIM8_ETR/USART2_CTS/USART4_TX/ETH_MII_CRS/ADC123_IN0/WKUP1, 35 PA1/TIM2_CH2/TIM5_CH2/USART2_RTS/UART4_RX/QUADSPI_BK1_IO3/SAI2_MCLK_B/ETH_MII_RX_CLK/ETH_RMII_REF_CLK/LCD_R2/ADC123_IN1, 36 PA2/TIM2_CH3/TIM5_CH3/TIM9_CH1/USART2_TX/SAI2_SCK_B/ETH_MDIO/MDIOS_MDIO/LCD_R1/ADC123_IN2/WKUP2, 37 PA3/TIM2_CH4/TIM5_CH4/TIM9_CH2/USART2_RX/LCD_B2/OTG_HS_ULPI_D0/ETH_MII_COL/LCD_B5/ADC123_IN3, 38 VSS, 39 VDD, 40 PA4/SPI1_NSS/I2S1_WS/SPI3_NSS/I2S3_WS/USART2_CK/SPI6_NSS/OTG_HS_SOF/DCMI_HSYNC/LCD_VSYNC/ADC12_IN4/DAC_OUT1, 41 PA5/TIM2_CH1/TIM2_ETR/TIM8_CH1N/SPI1_SCK/I2S1_CK/SPI6_SCK/OTG_HS_ULPI_CK/LCD_R4/ADC12_IN5/DAC_OUT2, 42 PA6/TIM1_BKIN/TIM3_CH1/TIM8_BKIN/SPI1_MISO/TIM13_CH1/MDIOS_MDC/DCMI_PIXCLK/LCD_G2/ADC12_IN6, 43 PA7/TIM1_CH1N/TIM3_CH2/TIM8_CH1N/SPI1_MOSI/I2S1_SD/SPI6_MOSI/TIM14_CH1/ETH_MII_RX_DV/ETH_RMII_CRS_DV/FMC_SDNWE/ADC12_IN7, 44 PC4/DFSDM1_CKIN2/I2S1_MCK/SPDIF_RX2/ETH_MII_RXD0/ETH_RMII  _RXD0/FMC_SDNE0/ADC12_IN14, 45 PC5/DFSDM1_DATIN2/SPDIF_RX3/ETH_MII_RXD1/ETH_RMII  _RXD1/FMC_SDCKE0/ADC12_IN15, 46 PB0/TIM1_CH2N/TIM3_CH3/TIM8_CH2N/DFSDM1_CKOUT/UART4_CTS/LCD_R3/OTG_HS_ULPI_D1/ETH_MII_RXD2/LCD_G1/ADC12_IN8, 47 PB1/TIM1_CH3N/TIM3_CH4/TIM8_CH3N/DFSDM1_DATIN1/LCD_R6/OTG_HS_ULPI_D2/ETH_MII_RXD3/LCD_G0/ADC12_IN9, 48 PB2/SAI1_SD_A/SPI3_MOSI/I2S3_SD/QUADSPI_CLK/DFSDM1_CKIN1, 49 PF11/SPI5_MOSI/SAI2_SD_B/FMC_SDNRAS/DCMI_D12, 50 PF12/FMC_A6, 51 VSS, 52 VDD, 53 PF13/I2C4_SMBA/DFSDM1_DATIN6/FMC_A7, 54 PF14/I2C4_SCL/DFSDM1_CKIN6/FMC_A8, 55 PF15/I2C4_SDA/FMC_A9, 56 PG0/FMC_A10, 57 PG1/FMC_A11, 58 PE7/TIM1_ETR/DFSDM1_DATIN2/UART7_RX/QUADSPI_BK2_IO0/FMC_D4, 59 PE8/TIM1_CH1N/DFSDM1_CKIN2/UART7_TX/QUADSPI_BK2_IO1/FMC_D5, 60 PE9/TIM1_CH1/DFSDM1_CKOUT/UART7_RTS/QUADSPI_BK2_IO2/FMC_D6, 61 VSS, 62 VDD, 63 PE10/TIM1_CH2N/DFSDM1_DATIN4/UART7_CTS/QUADSPI_BK2_IO3/FMC_D7, 64 PE11/TIM1_CH2/SPI4_NSS/DFSDM1_CKIN4/SAI2_SD_B/FMC_D8/LCD_G3, 65 PE12/TIM1_CH3N/SPI4_SCK/DFSDM1_DATIN5/SAI2_SCK_B/FMC_D9/LCD_B4, 66 PE13/TIM1_CH3/SPI4_MISO/DFSDM1_CKIN5/SAI2_FS_B/FMC_D10/LCD_DE, 67 PE14/TIM1_CH4/SPI4_MOSI/SAI2_MCLK_B/FMC_D11/LCD_CLK, 68 PE15/TIM1_BKIN/FMC_D12/LCD_R7, 69 PB10/TIM2_CH3/I2C2_SCL/SPI2_SCK/I2S2_CK/DFSDM1_DATIN7/USART3_TX/QUADSPI_BK1_NCS/OTG_HS_ULPI_D3/ETH_MII_RX_ER/LCD_G4, 70 PB11/TIM2_CH4/I2C2_SDA/DFSDM1_CKIN7/USART3_RX/OTG_HS_ULPI_D4/ETH_MII_TX_EN/ETH_RMII_TX_EN/DSI_TE/LCD_G5, 71 VCAP_1, 72 VDD, 73 PB12/TIM1_BKIN/I2C2_SMBA/SPI2_NSS/I2S2_WS/USART3_CK/USART5_RX/CAN2_RX/OTG_HS_ULPI_D5/ETH_MII_TXD0/ETH_RMII_TXD0/OTG_HS_ID, 74 PB13/TIM1_CH1N/SPI2_SCK/I2S2_CK/DFSDM1_CKIN1/USART3_CTS/CAN2_TX/OTG_HS_ULPI_D6/ETH_MII_TXD1/ETH_RMII_TXD1/OTG_HS_VBUS, 75 PB14/TIM1_CH2N/TIM8_CH2N/USART1_TX/SPI2_MISO/DFSDM1_DATIN2/USART3_RTS/UART4_RTS/TIM12_CH1/SDMMC2_D0/OTG_HS_DM, 76 PB15/RTC_REFIN/TIM1_CH3N/TIM8_CH3N/USART1_RX/SPI2_MOSI/I2S2_SD/DFSDM1_CKIN2/UART4_CTS/TIM12_CH2/SDMMC2_D1/OTG_HS_DP, 77 PD8/DFSDM1_CKIN3/USART3_TX/SPDIF_RX1/FMC_D13, 78 PD9/DFSDM1_DATIN3/USART3_RX/FMC_D14, 79 PD10/DFSDM1_CKOUT/USART3_CK/FMC_D15/LCD_B3, 80 PD11/I2C4_SMBA/USART3_CTS/QUADSPI_BK1_IO0/SAI2_SD_A/FMC_A16/FMC_CLE, 81 PD12/TIM4_CH1/LPTIM1_IN1/I2C4_SCL/USART3_RTS/QUADSPI_BK1_IO1/SAI2_FS_A/FMC_A17/FMC_ALE, 82 PD13/TIM4_CH2/LPTIM1_OUT/I2C4_SDA/QUADSPI_BK1_IO3/SAI2_SCK_A/FMC_A18, 83 VSS, 84 VDD, 85 PD14/TIM4_CH3/UART8_CTS/FMC_D0, 86 PD15/TIM4_CH4/UART8_RTS/FMC_D1, 87 PG2/FMC_A12, 88 PG3/FMC_A13, 89 PG4/FMC_A14/FMC_BA0, 90 PG5/FMC_A15/FMC_BA1, 91 PG6/FMC_NE3/DCMI_D12/LCD_R7, 92 PG7/SAI1_MCLK_A/USART6_CK/FMC_INT/DCMI_D13/LCD_CLK, 93 PG8/SPI6_NSS/SPDIF_RX2/USART6_RTS/ETH_PPS_OUT/FMC_SDCLK/LCD_G7, 94 VSS, 95 VDDUSB, 96 PC6/TIM3_CH1/TIM8_CH1/I2S2_MCK/DFSDM1_CKIN3/USART6_TX/FMC_NWAIT/SDMMC2_D6/SDMMC1_D6/DCMI_D0/LCD_HSYNC, 97 PC7/TIM3_CH2/TIM8_CH2/I2S3_MCK/DFSDM1_DATIN3/USART6_RX/FMC_NE1/SDMMC2_D7/SDMMC1_D7/DCMI_D1/LCD_G6, 98 PC8/TRACED1/TIM3_CH3/TIM8_CH3/UART5_RTS/USART6_CK/FMC_NE2/FMC_NCE/SDMMC1_D0/DCMI_D2, 99 PC9/MCO2/TIM3_CH4/TIM8_CH4/I2C3_SDA/I2S_CKIN/UART5_CTS/QUADSPI_BK1_IO0/LCD_G3/SDMMC1_D1/DCMI_D3/LCD_B2, 100 PA8/MCO1/TIM1_CH1/TIM8_BKIN2/I2C3_SCL/USART1_CK/OTG_FS_SOF/CAN3_RX/UART7_RX/LCD_B3/LCD_R6, 101 PA9/TIM1_CH2/I2C3_SMBA/SPI2_SCK/I2S2_CK/USART1_TX/DCMI_D0/LCD_R5/OTG_FS_V  BUS, 102 PA10/TIM1_CH3/USART1_RX/LCD_B4/OTG_FS_ID/MDIOS_MDIO/DCMI_D1/LCD_B1, 103 PA11/TIM1_CH4/SPI2_NSS/I2S2_WS/UART4_RX/USART1_CTS/CAN1_RX/OTG_FS_DM/LCD_R4, 104 PA12/TIM1_ETR/SPI2_SCK/I2S2_CK/UART4_TX/USART1_RTS/SAI2_FS_B/CAN1_TX/OTG_FS_DP/LCD_R5, 105 PA13/JTMS_SWDIO, 106 VCAP_2, 107 VSS, 108 VDD, 109 PA14/JTCK_SWCLK, 110 PA15/JTDI/TIM2_CH1/TIM2_ETR/HDMI_CEC.SPI1_NSS/I2S1_WS/SPI3_NSS/I2S3_WS/SPI6_NSS/UART4_RTS/CAN3_TX/UART7_TX, 111 PC10/DFSDM1_CKIN5/SPI3_SCK/I2S3_CK/USART3_TX/UART4_TX/QUADSPI_BK1_IO1/SDMMC1_D2/DCMI_D8/LCD_R2, 112 PC11/DFSDM1_DATIN5/SPI3_MISO/USART3_RX/UART4_RX/QUADSPI_BK2_NCS/SDMMC1_D3/DCMI_D4, 113 PC12/TRACED3/SPI3_MOSI/I2S3_SD/USART3_CK/UART5_TX/SDMMC1_CK/DCMI_D9, 114 PD0/DFSDM1_CKIN6/DFSDM1_DATIN7/UART4_RX/CAN1_RX/FMC_D2, 115 PD1/DFSDM1_DATIN6/DFSDM1_CKIN7/UART4_TX/CAN1_TX/FMC_D3, 116 PD2/TRACED2/TIM3_ETR/UART5_RX/SDMMC1_CMD/DCMI_D11, 117 PD3/DFSDM1_CKOUT/SPI2_SCK/I2S2_CK/DFSDM1_DATIN0/USART2_CTS/FMC_CLK/DCMI_D5/LCD_G7, 118 PD4/DFSDM1_CKIN0/USART2_RTS/FMC_NOE, 119 PD5/USART2_TX/FMC_NWE, 120 VSS, 121 VDDSDMMC, 122 PD6/DFSDM1_CKIN4/SPI3_MOSI/I2S3_SD/SAI1_SD_A/USART2_RX/DFSDM1_DATIN1/SDMMC2_CK/FMC_NWAIT/DCMI_D10/LCD_B2, 123 PD7/DFSDM1_DATIN4/SPI1_MOSI/I2S1_SD/DFSDM1_CKIN1/USART2_CK/SPDIF_RX0/SDMMC2_CMD/FMC_NE1, 124 PG9/SPI1_MISO/SPDIF_RX3/USART6_RX/QUADSPI_BK2_IO2/SAI2_FS_B/SDMMC2_D0/FMC_NE2/FMC_NCE/DCMI_VSYNC, 125 PG10/SPI1_NSS/I2S1_WS/LCD_G3/SAI2_SD_B/SDMMC2_D1/FMC_NE3/DCMI_D2/LCD_B2, 126 PG11/SPI1_SCK/I2S1_CK/SPDIF_RX0/SDMMC2_D2/ETH_MII_TX_EN/ETH_RMII_TX_EN/DCMI_D3/LCD_B3, 127 PG12/LPTIM1_IN1/SPI6_MISO/SPDIF_RX1/USART6_RTS/LCD_B4/SDMMC2_D3/FMC_NE4/LCD_B1, 128 PG13/TRACED0/LPTIM1_OUT/SPI6_SCK/USART6_CTS/ETH_MII_TXD0/ETH_RMII_TXD0/FMC_A24/LCD_R0, 129 PG14/TRACED1/LPTIM1_ETR/SPI6_MOSI/USART6_TX/QUADSPI_BK2_IO3/ETH_MII_TXD1/ETH_RMII_TXD1/FMC_A25/LCD_B0, 130 VSS, 131 VDD, 132 PG15/USART6_CTS/FMC_SDNCAS/DCMI_D13, 133 PB3/JTDO/TRACESWO/TIM2_CH2/SPI1_SCK/I2S1_CK/SPI3_SCK/I2S3_CK/SPI6_SCK/SDMMC2_D2/CAN3_RX/UART7_RX, 134 PB4/NJTRST/TIM3_CH1/SPI1_MISO/SPI3_MISO/SPI2_NSS/I2S2_WS/SPI6_MISO/SDMMC2_D3/CAN3_TX/UART7_TX, 135 PB5/UART5_RX/TIM3_CH2/I2C1_SMBA/SPI1_MOSI/I2S1_SD/SPI3_MOSI/I2S3_SD/SPI6_MOSI/CAN2_RX/OTG_HS_ULPI_D7/ETH_PPS_OUT/FMC_SDCKE1/DCMI_D10/LCD_G7, 136 PB6/UART5_TX/TIM4_CH1/HDMI_CEC/I2C1_SCL/DFSDM1_DATIN5/USART1_TX/CAN2_TX/QUADSPI_BK1_NCS/I2C4_SCL/FMC_SDNE1/DCMI_D5, 137 PB7/TIM4_CH2/I2C1_SDA/DFSDM1_CKIN5/USART1_RX/I2C4_SDA/FMC_NL/DCMI_VSYNC, 138 BOOT0, 139 PB8/I2C4_SCL/TIM4_CH3/TIM10_CH1/I2C1_SCL/DFSDM1_CKIN7/UART5_RX/CAN1_RX/SDMMC2_D4/ETH_MII_TXD3/SDMMC1_D4/DCMI_D6/LCD_B6, 140 PB9/I2C4_SDA/TIM4_CH4/TIM11_CH1/I2C1_SDA/SPI2_NSS/I2S2_WS/DFSDM1_DATIN7/UART5_TX/CAN1_TX/SDMMC2_D5/I2C4_SMBA/SDMMC1_D5/DCMI_D7/LCD_B7, 141 PE0/TIM4_ETR/LPTIM1_ETR/UART8_RX/SAI2_MCLK_A/FMC_NBL0/DCMI_D2, 142 PE1/LPTIM1_IN2/UART8_TX/FMC_NBL1/DCMI_D3, 143 PDR_ON, 144 VDD